# Altium schematic symbol library altera-cyclone-II.SCHLIB: 24 symbols (part 1 of 3)
Pins are listed as number, name and electrical type; pins without a type are passive.

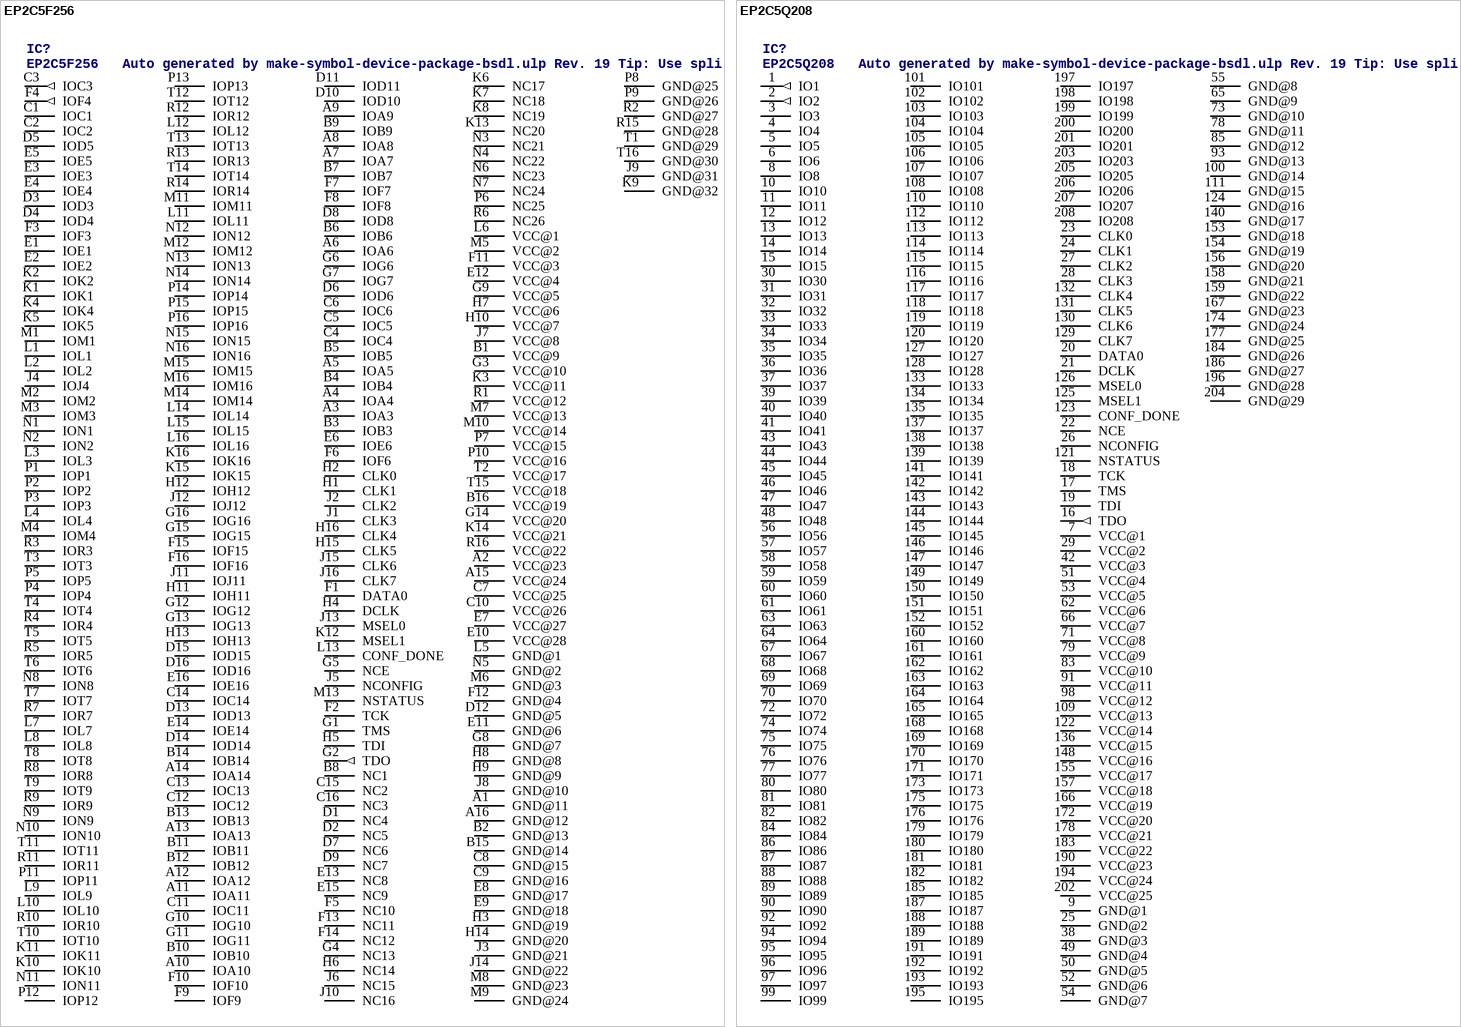
[diagram p0: symbols EP2C5F256 to EP2C5Q208]

## EP2C5F256
designator IC?, comment EP2C5F256   Auto generated by make-symbol-device-package-bsdl.ulp Rev. 19 Tip: Use split-device-symbol.ulp to generate a Device with multiple small symbols! Read HELP.   Source: EP2C5F256.BSD
MPN: EP2C5F256C8N; OC_FARNELL: 1635082; OC_NEWARK: 51R0566
footprint FBGA256
pins: A1 GND@11 (power), A2 VCC@23 (power), A3 IOA3, A4 IOA4, A5 IOA5, A6 IOA6, A7 IOA7, A8 IOA8, A9 IOA9, A10 IOA10, A11 IOA11, A12 IOA12, A13 IOA13, A14 IOA14, A15 VCC@24 (power), A16 GND@12 (power), B1 VCC@9 (power), B2 GND@13 (power), B3 IOB3, B4 IOB4, B5 IOB5, B6 IOB6, B7 IOB7, B8 NC1, B9 IOB9, B10 IOB10, B11 IOB11, B12 IOB12, B13 IOB13, B14 IOB14, B15 GND@14 (power), B16 VCC@19 (power), C1 IOC1, C2 IOC2, C3 IOC3 (out), C4 IOC4, C5 IOC5, C6 IOC6, C7 VCC@25 (power), C8 GND@15 (power), C9 GND@16 (power), C10 VCC@26 (power), C11 IOC11, C12 IOC12, C13 IOC13, C14 IOC14, C15 NC2, C16 NC3, D1 NC4, D2 NC5, D3 IOD3, D4 IOD4, D5 IOD5, D6 IOD6, D7 NC6, D8 IOD8, D9 NC7, D10 IOD10, D11 IOD11, D12 GND@5 (power), D13 IOD13, D14 IOD14, D15 IOD15, D16 IOD16, E1 IOE1, E2 IOE2, E3 IOE3, E4 IOE4, E5 IOE5, E6 IOE6, E7 VCC@27 (power), E8 GND@17 (power), E9 GND@18 (power), E10 VCC@28 (power), E11 GND@6 (power), E12 VCC@4 (power), E13 NC8, E14 IOE14, E15 NC9, E16 IOE16, F1 DATA0, F2 TCK, F3 IOF3, F4 IOF4 (out), F5 NC10, F6 IOF6, F7 IOF7, F8 IOF8, F9 IOF9, F10 IOF10, F11 VCC@3 (power), F12 GND@4 (power), F13 NC11, F14 NC12, F15 IOF15, F16 IOF16, G1 TMS, G2 TDO (out), G3 VCC@10 (power), G4 NC13, G5 NCE, G6 IOG6, G7 IOG7, G8 GND@7 (power), G9 VCC@5 (power), G10 IOG10, G11 IOG11, G12 IOG12, G13 IOG13, G14 VCC@20 (power), G15 IOG15, G16 IOG16, H1 CLK1, H2 CLK0, H3 GND@19 (power), H4 DCLK, H5 TDI, H6 NC14, H7 VCC@6 (power), H8 GND@8 (power), H9 GND@9 (power), H10 VCC@7 (power), H11 IOH11, H12 IOH12, H13 IOH13, H14 GND@20 (power), H15 CLK5, H16 CLK4, J1 CLK3, J2 CLK2, J3 GND@21 (power), J4 IOJ4, J5 NCONFIG, J6 NC15, J7 VCC@8 (power), J8 GND@10 (power), J9 GND@31 (power), J10 NC16, J11 IOJ11, J12 IOJ12, J13 MSEL0, J14 GND@22 (power), J15 CLK6, J16 CLK7, K1 IOK1, K2 IOK2, K3 VCC@11 (power), K4 IOK4, K5 IOK5, K6 NC17, K7 NC18, K8 NC19, K9 GND@32 (power), K10 IOK10, K11 IOK11, K12 MSEL1, K13 NC20, K14 VCC@21 (power), K15 IOK15, K16 IOK16, L1 IOL1, L2 IOL2, L3 IOL3, L4 IOL4, L5 GND@1 (power), L6 VCC@1 (power), L7 IOL7, L8 IOL8, L9 IOL9, L10 IOL10, L11 IOL11, L12 IOL12, L13 CONF_DONE, L14 IOL14, L15 IOL15, L16 IOL16, M1 IOM1, M2 IOM2, M3 IOM3, M4 IOM4, M5 VCC@2 (power), M6 GND@3 (power), M7 VCC@13 (power), M8 GND@23 (power), M9 GND@24 (power), M10 VCC@14 (power), M11 IOM11, M12 IOM12, M13 NSTATUS, M14 IOM14, M15 IOM15, M16 IOM16, N1 ION1, N2 ION2, N3 NC21, N4 NC22, N5 GND@2 (power), N6 NC23, N7 NC24, N8 ION8, N9 ION9, N10 ION10, N11 ION11, N12 ION12, N13 ION13, N14 ION14, N15 ION15, N16 ION16, P1 IOP1, P2 IOP2, P3 IOP3, P4 IOP4, P5 IOP5, P6 NC25, P7 VCC@15 (power), P8 GND@25 (power), P9 GND@26 (power), P10 VCC@16 (power), P11 IOP11, P12 IOP12, P13 IOP13, P14 IOP14, P15 IOP15, P16 IOP16, R1 VCC@12 (power), R2 GND@27 (power), R3 IOR3, R4 IOR4, R5 IOR5, R6 NC26, R7 IOR7, R8 IOR8, R9 IOR9, R10 IOR10, R11 IOR11, R12 IOR12, R13 IOR13, R14 IOR14, R15 GND@28 (power), R16 VCC@22 (power), T1 GND@29 (power), T2 VCC@17 (power), T3 IOT3, T4 IOT4, T5 IOT5, T6 IOT6, T7 IOT7, T8 IOT8, T9 IOT9, T10 IOT10, T11 IOT11, T12 IOT12, T13 IOT13, T14 IOT14, T15 VCC@18 (power), T16 GND@30 (power)

## EP2C5Q208
designator IC?, comment EP2C5Q208   Auto generated by make-symbol-device-package-bsdl.ulp Rev. 19 Tip: Use split-device-symbol.ulp to generate a Device with multiple small symbols! Read HELP.   Source: EP2C5Q208.BSD
MPN: EP2C5Q208C8N; OC_FARNELL: 1663193; OC_NEWARK: 51R0567
footprint PQFP208
pins: 1 IO1 (out), 2 IO2 (out), 3 IO3, 4 IO4, 5 IO5, 6 IO6, 7 VCC@1 (power), 8 IO8, 9 GND@1 (power), 10 IO10, 11 IO11, 12 IO12, 13 IO13, 14 IO14, 15 IO15, 16 TDO (out), 17 TMS, 18 TCK, 19 TDI, 20 DATA0, 21 DCLK, 22 NCE, 23 CLK0, 24 CLK1, 25 GND@2 (power), 26 NCONFIG, 27 CLK2, 28 CLK3, 29 VCC@2 (power), 30 IO30, 31 IO31, 32 IO32, 33 IO33, 34 IO34, 35 IO35, 36 IO36, 37 IO37, 38 GND@3 (power), 39 IO39, 40 IO40, 41 IO41, 42 VCC@3 (power), 43 IO43, 44 IO44, 45 IO45, 46 IO46, 47 IO47, 48 IO48, 49 GND@4 (power), 50 GND@5 (power), 51 VCC@4 (power), 52 GND@6 (power), 53 VCC@5 (power), 54 GND@7 (power), 55 GND@8 (power), 56 IO56, 57 IO57, 58 IO58, 59 IO59, 60 IO60, 61 IO61, 62 VCC@6 (power), 63 IO63, 64 IO64, 65 GND@9 (power), 66 VCC@7 (power), 67 IO67, 68 IO68, 69 IO69, 70 IO70, 71 VCC@8 (power), 72 IO72, 73 GND@10 (power), 74 IO74, 75 IO75, 76 IO76, 77 IO77, 78 GND@11 (power), 79 VCC@9 (power), 80 IO80, 81 IO81, 82 IO82, 83 VCC@10 (power), 84 IO84, 85 GND@12 (power), 86 IO86, 87 IO87, 88 IO88, 89 IO89, 90 IO90, 91 VCC@11 (power), 92 IO92, 93 GND@13 (power), 94 IO94, 95 IO95, 96 IO96, 97 IO97, 98 VCC@12 (power), 99 IO99, 100 GND@14 (power), 101 IO101, 102 IO102, 103 IO103, 104 IO104, 105 IO105, 106 IO106, 107 IO107, 108 IO108, 109 VCC@13 (power), 110 IO110, 111 GND@15 (power), 112 IO112, 113 IO113, 114 IO114, 115 IO115, 116 IO116, 117 IO117, 118 IO118, 119 IO119, 120 IO120, 121 NSTATUS, 122 VCC@14 (power), 123 CONF_DONE, 124 GND@16 (power), 125 MSEL1, 126 MSEL0, 127 IO127, 128 IO128, 129 CLK7, 130 CLK6, 131 CLK5, 132 CLK4, 133 IO133, 134 IO134, 135 IO135, 136 VCC@15 (power), 137 IO137, 138 IO138, 139 IO139, 140 GND@17 (power), 141 IO141, 142 IO142, 143 IO143, 144 IO144, 145 IO145, 146 IO146, 147 IO147, 148 VCC@16 (power), 149 IO149, 150 IO150, 151 IO151, 152 IO152, 153 GND@18 (power), 154 GND@19 (power), 155 VCC@17 (power), 156 GND@20 (power), 157 VCC@18 (power), 158 GND@21 (power), 159 GND@22 (power), 160 IO160, 161 IO161, 162 IO162, 163 IO163, 164 IO164, 165 IO165, 166 VCC@19 (power), 167 GND@23 (power), 168 IO168, 169 IO169, 170 IO170, 171 IO171, 172 VCC@20 (power), 173 IO173, 174 GND@24 (power), 175 IO175, 176 IO176, 177 GND@25 (power), 178 VCC@21 (power), 179 IO179, 180 IO180, 181 IO181, 182 IO182, 183 VCC@22 (power), 184 GND@26 (power), 185 IO185, 186 GND@27 (power), 187 IO187, 188 IO188, 189 IO189, 190 VCC@23 (power), 191 IO191, 192 IO192, 193 IO193, 194 VCC@24 (power), 195 IO195, 196 GND@28 (power), 197 IO197, 198 IO198, 199 IO199, 200 IO200, 201 IO201, 202 VCC@25 (power), 203 IO203, 204 GND@29 (power), 205 IO205, 206 IO206, 207 IO207, 208 IO208

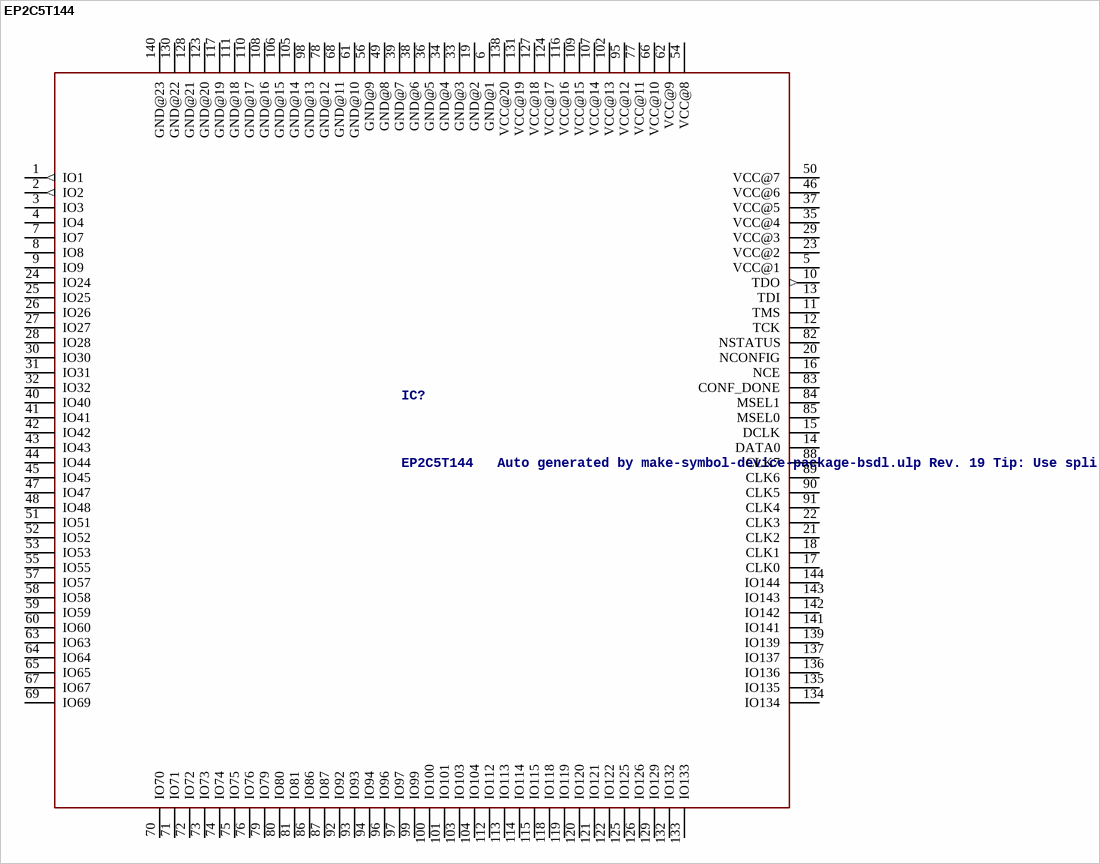
[diagram p1: symbol EP2C5T144]

## EP2C5T144
designator IC?, comment EP2C5T144   Auto generated by make-symbol-device-package-bsdl.ulp Rev. 19 Tip: Use split-device-symbol.ulp to generate a Device with multiple small symbols! Read HELP.   Source: EP2C5T144.BSD
MPN: EP2C5T144C8N; OC_FARNELL: 1453495; OC_NEWARK: 51R0568
footprint TQFP144
pins: 1 IO1 (out), 2 IO2 (out), 3 IO3, 4 IO4, 5 VCC@1 (power), 6 GND@1 (power), 7 IO7, 8 IO8, 9 IO9, 10 TDO (out), 11 TMS, 12 TCK, 13 TDI, 14 DATA0, 15 DCLK, 16 NCE, 17 CLK0, 18 CLK1, 19 GND@2 (power), 20 NCONFIG, 21 CLK2, 22 CLK3, 23 VCC@2 (power), 24 IO24, 25 IO25, 26 IO26, 27 IO27, 28 IO28, 29 VCC@3 (power), 30 IO30, 31 IO31, 32 IO32, 33 GND@3 (power), 34 GND@4 (power), 35 VCC@4 (power), 36 GND@5 (power), 37 VCC@5 (power), 38 GND@6 (power), 39 GND@7 (power), 40 IO40, 41 IO41, 42 IO42, 43 IO43, 44 IO44, 45 IO45, 46 VCC@6 (power), 47 IO47, 48 IO48, 49 GND@8 (power), 50 VCC@7 (power), 51 IO51, 52 IO52, 53 IO53, 54 VCC@8 (power), 55 IO55, 56 GND@9 (power), 57 IO57, 58 IO58, 59 IO59, 60 IO60, 61 GND@10 (power), 62 VCC@9 (power), 63 IO63, 64 IO64, 65 IO65, 66 VCC@10 (power), 67 IO67, 68 GND@11 (power), 69 IO69, 70 IO70, 71 IO71, 72 IO72, 73 IO73, 74 IO74, 75 IO75, 76 IO76, 77 VCC@11 (power), 78 GND@12 (power), 79 IO79, 80 IO80, 81 IO81, 82 NSTATUS, 83 CONF_DONE, 84 MSEL1, 85 MSEL0, 86 IO86, 87 IO87, 88 CLK7, 89 CLK6, 90 CLK5, 91 CLK4, 92 IO92, 93 IO93, 94 IO94, 95 VCC@12 (power), 96 IO96, 97 IO97, 98 GND@13 (power), 99 IO99, 100 IO100, 101 IO101, 102 VCC@13 (power), 103 IO103, 104 IO104, 105 GND@14 (power), 106 GND@15 (power), 107 VCC@14 (power), 108 GND@16 (power), 109 VCC@15 (power), 110 GND@17 (power), 111 GND@18 (power), 112 IO112, 113 IO113, 114 IO114, 115 IO115, 116 VCC@16 (power), 117 GND@19 (power), 118 IO118, 119 IO119, 120 IO120, 121 IO121, 122 IO122, 123 GND@20 (power), 124 VCC@17 (power), 125 IO125, 126 IO126, 127 VCC@18 (power), 128 GND@21 (power), 129 IO129, 130 GND@22 (power), 131 VCC@19 (power), 132 IO132, 133 IO133, 134 IO134, 135 IO135, 136 IO136, 137 IO137, 138 VCC@20 (power), 139 IO139, 140 GND@23 (power), 141 IO141, 142 IO142, 143 IO143, 144 IO144

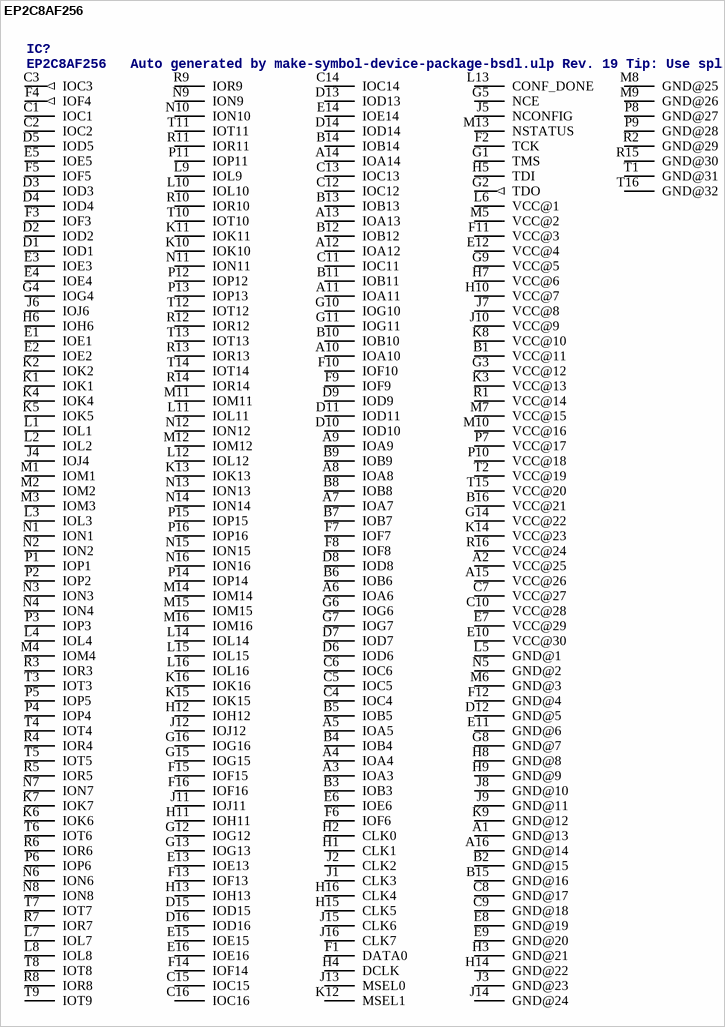
[diagram p2: symbol EP2C8AF256]

## EP2C8AF256
designator IC?, comment EP2C8AF256   Auto generated by make-symbol-device-package-bsdl.ulp Rev. 19 Tip: Use split-device-symbol.ulp to generate a Device with multiple small symbols! Read HELP.   Source: EP2C8AF256.BSD
MPN: EP2C8AF256I8NES; OC_FARNELL: unknown; OC_NEWARK: 52R0595
footprint FBGA256
pins: A1 GND@13 (power), A2 VCC@25 (power), A3 IOA3, A4 IOA4, A5 IOA5, A6 IOA6, A7 IOA7, A8 IOA8, A9 IOA9, A10 IOA10, A11 IOA11, A12 IOA12, A13 IOA13, A14 IOA14, A15 VCC@26 (power), A16 GND@14 (power), B1 VCC@11 (power), B2 GND@15 (power), B3 IOB3, B4 IOB4, B5 IOB5, B6 IOB6, B7 IOB7, B8 IOB8, B9 IOB9, B10 IOB10, B11 IOB11, B12 IOB12, B13 IOB13, B14 IOB14, B15 GND@16 (power), B16 VCC@21 (power), C1 IOC1, C2 IOC2, C3 IOC3 (out), C4 IOC4, C5 IOC5, C6 IOC6, C7 VCC@27 (power), C8 GND@17 (power), C9 GND@18 (power), C10 VCC@28 (power), C11 IOC11, C12 IOC12, C13 IOC13, C14 IOC14, C15 IOC15, C16 IOC16, D1 IOD1, D2 IOD2, D3 IOD3, D4 IOD4, D5 IOD5, D6 IOD6, D7 IOD7, D8 IOD8, D9 IOD9, D10 IOD10, D11 IOD11, D12 GND@5 (power), D13 IOD13, D14 IOD14, D15 IOD15, D16 IOD16, E1 IOE1, E2 IOE2, E3 IOE3, E4 IOE4, E5 IOE5, E6 IOE6, E7 VCC@29 (power), E8 GND@19 (power), E9 GND@20 (power), E10 VCC@30 (power), E11 GND@6 (power), E12 VCC@4 (power), E13 IOE13, E14 IOE14, E15 IOE15, E16 IOE16, F1 DATA0, F2 TCK, F3 IOF3, F4 IOF4 (out), F5 IOF5, F6 IOF6, F7 IOF7, F8 IOF8, F9 IOF9, F10 IOF10, F11 VCC@3 (power), F12 GND@4 (power), F13 IOF13, F14 IOF14, F15 IOF15, F16 IOF16, G1 TMS, G2 TDO (out), G3 VCC@12 (power), G4 IOG4, G5 NCE, G6 IOG6, G7 IOG7, G8 GND@7 (power), G9 VCC@5 (power), G10 IOG10, G11 IOG11, G12 IOG12, G13 IOG13, G14 VCC@22 (power), G15 IOG15, G16 IOG16, H1 CLK1, H2 CLK0, H3 GND@21 (power), H4 DCLK, H5 TDI, H6 IOH6, H7 VCC@6 (power), H8 GND@8 (power), H9 GND@9 (power), H10 VCC@7 (power), H11 IOH11, H12 IOH12, H13 IOH13, H14 GND@22 (power), H15 CLK5, H16 CLK4, J1 CLK3, J2 CLK2, J3 GND@23 (power), J4 IOJ4, J5 NCONFIG, J6 IOJ6, J7 VCC@8 (power), J8 GND@10 (power), J9 GND@11 (power), J10 VCC@9 (power), J11 IOJ11, J12 IOJ12, J13 MSEL0, J14 GND@24 (power), J15 CLK6, J16 CLK7, K1 IOK1, K2 IOK2, K3 VCC@13 (power), K4 IOK4, K5 IOK5, K6 IOK6, K7 IOK7, K8 VCC@10 (power), K9 GND@12 (power), K10 IOK10, K11 IOK11, K12 MSEL1, K13 IOK13, K14 VCC@23 (power), K15 IOK15, K16 IOK16, L1 IOL1, L2 IOL2, L3 IOL3, L4 IOL4, L5 GND@1 (power), L6 VCC@1 (power), L7 IOL7, L8 IOL8, L9 IOL9, L10 IOL10, L11 IOL11, L12 IOL12, L13 CONF_DONE, L14 IOL14, L15 IOL15, L16 IOL16, M1 IOM1, M2 IOM2, M3 IOM3, M4 IOM4, M5 VCC@2 (power), M6 GND@3 (power), M7 VCC@15 (power), M8 GND@25 (power), M9 GND@26 (power), M10 VCC@16 (power), M11 IOM11, M12 IOM12, M13 NSTATUS, M14 IOM14, M15 IOM15, M16 IOM16, N1 ION1, N2 ION2, N3 ION3, N4 ION4, N5 GND@2 (power), N6 ION6, N7 ION7, N8 ION8, N9 ION9, N10 ION10, N11 ION11, N12 ION12, N13 ION13, N14 ION14, N15 ION15, N16 ION16, P1 IOP1, P2 IOP2, P3 IOP3, P4 IOP4, P5 IOP5, P6 IOP6, P7 VCC@17 (power), P8 GND@27 (power), P9 GND@28 (power), P10 VCC@18 (power), P11 IOP11, P12 IOP12, P13 IOP13, P14 IOP14, P15 IOP15, P16 IOP16, R1 VCC@14 (power), R2 GND@29 (power), R3 IOR3, R4 IOR4, R5 IOR5, R6 IOR6, R7 IOR7, R8 IOR8, R9 IOR9, R10 IOR10, R11 IOR11, R12 IOR12, R13 IOR13, R14 IOR14, R15 GND@30 (power), R16 VCC@24 (power), T1 GND@31 (power), T2 VCC@19 (power), T3 IOT3, T4 IOT4, T5 IOT5, T6 IOT6, T7 IOT7, T8 IOT8, T9 IOT9, T10 IOT10, T11 IOT11, T12 IOT12, T13 IOT13, T14 IOT14, T15 VCC@20 (power), T16 GND@32 (power)

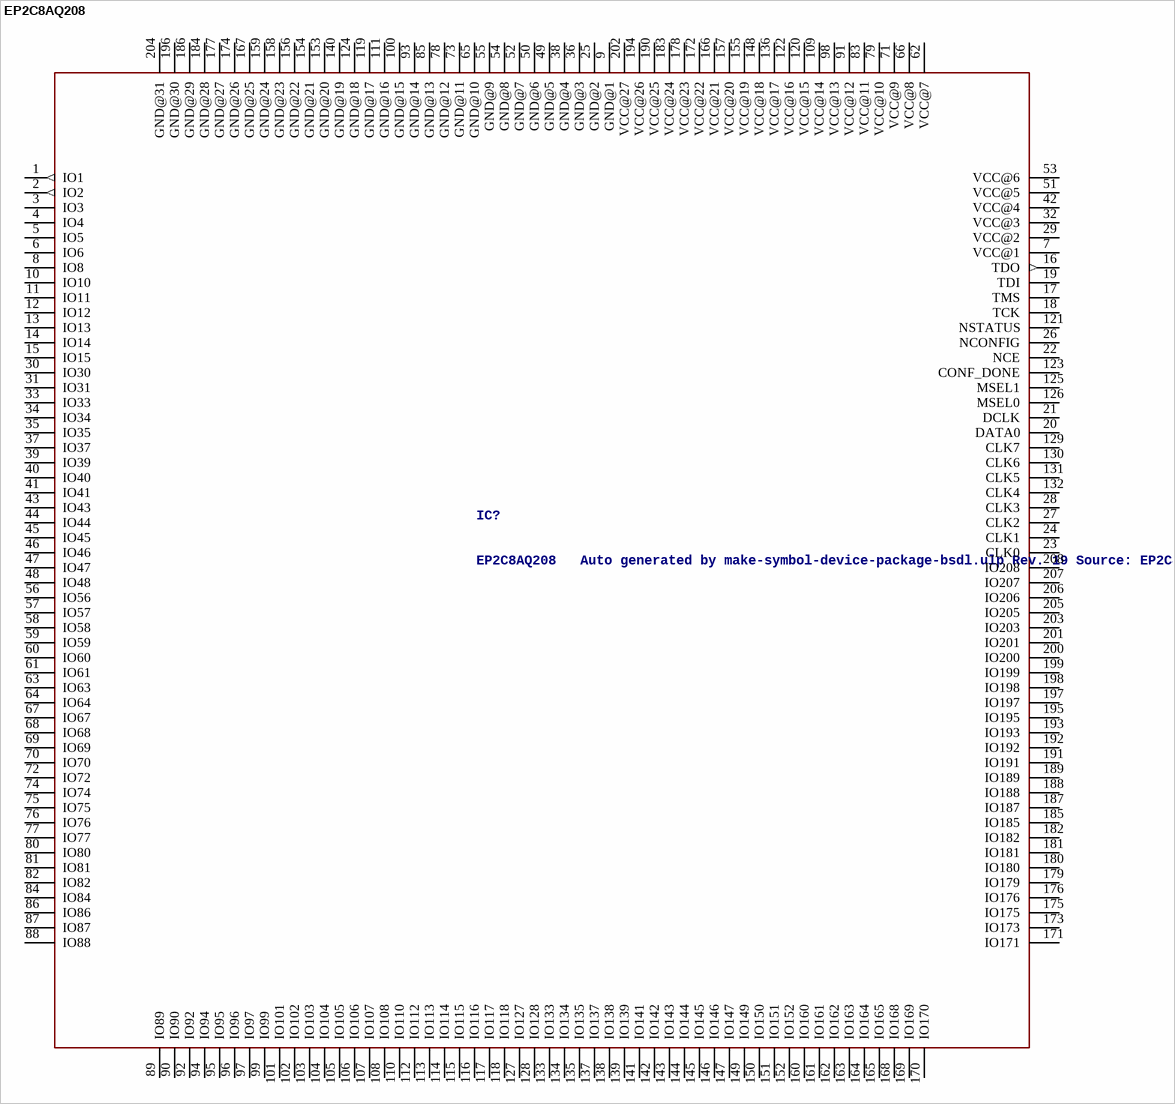
[diagram p3: symbol EP2C8AQ208]

## EP2C8AQ208
designator IC?, comment EP2C8AQ208   Auto generated by make-symbol-device-package-bsdl.ulp Rev. 19 Source: EP2C8AQ208.BSD
OC_FARNELL: unknown; OC_NEWARK: unknown
footprint PQFP208
pins: 1 IO1 (out), 2 IO2 (out), 3 IO3, 4 IO4, 5 IO5, 6 IO6, 7 VCC@1 (power), 8 IO8, 9 GND@1 (power), 10 IO10, 11 IO11, 12 IO12, 13 IO13, 14 IO14, 15 IO15, 16 TDO (out), 17 TMS, 18 TCK, 19 TDI, 20 DATA0, 21 DCLK, 22 NCE, 23 CLK0, 24 CLK1, 25 GND@2 (power), 26 NCONFIG, 27 CLK2, 28 CLK3, 29 VCC@2 (power), 30 IO30, 31 IO31, 32 VCC@3 (power), 33 IO33, 34 IO34, 35 IO35, 36 GND@3 (power), 37 IO37, 38 GND@4 (power), 39 IO39, 40 IO40, 41 IO41, 42 VCC@4 (power), 43 IO43, 44 IO44, 45 IO45, 46 IO46, 47 IO47, 48 IO48, 49 GND@5 (power), 50 GND@6 (power), 51 VCC@5 (power), 52 GND@7 (power), 53 VCC@6 (power), 54 GND@8 (power), 55 GND@9 (power), 56 IO56, 57 IO57, 58 IO58, 59 IO59, 60 IO60, 61 IO61, 62 VCC@7 (power), 63 IO63, 64 IO64, 65 GND@10 (power), 66 VCC@8 (power), 67 IO67, 68 IO68, 69 IO69, 70 IO70, 71 VCC@9 (power), 72 IO72, 73 GND@11 (power), 74 IO74, 75 IO75, 76 IO76, 77 IO77, 78 GND@12 (power), 79 VCC@10 (power), 80 IO80, 81 IO81, 82 IO82, 83 VCC@11 (power), 84 IO84, 85 GND@13 (power), 86 IO86, 87 IO87, 88 IO88, 89 IO89, 90 IO90, 91 VCC@12 (power), 92 IO92, 93 GND@14 (power), 94 IO94, 95 IO95, 96 IO96, 97 IO97, 98 VCC@13 (power), 99 IO99, 100 GND@15 (power), 101 IO101, 102 IO102, 103 IO103, 104 IO104, 105 IO105, 106 IO106, 107 IO107, 108 IO108, 109 VCC@14 (power), 110 IO110, 111 GND@16 (power), 112 IO112, 113 IO113, 114 IO114, 115 IO115, 116 IO116, 117 IO117, 118 IO118, 119 GND@17 (power), 120 VCC@15 (power), 121 NSTATUS, 122 VCC@16 (power), 123 CONF_DONE, 124 GND@18 (power), 125 MSEL1, 126 MSEL0, 127 IO127, 128 IO128, 129 CLK7, 130 CLK6, 131 CLK5, 132 CLK4, 133 IO133, 134 IO134, 135 IO135, 136 VCC@17 (power), 137 IO137, 138 IO138, 139 IO139, 140 GND@19 (power), 141 IO141, 142 IO142, 143 IO143, 144 IO144, 145 IO145, 146 IO146, 147 IO147, 148 VCC@18 (power), 149 IO149, 150 IO150, 151 IO151, 152 IO152, 153 GND@20 (power), 154 GND@21 (power), 155 VCC@19 (power), 156 GND@22 (power), 157 VCC@20 (power), 158 GND@23 (power), 159 GND@24 (power), 160 IO160, 161 IO161, 162 IO162, 163 IO163, 164 IO164, 165 IO165, 166 VCC@21 (power), 167 GND@25 (power), 168 IO168, 169 IO169, 170 IO170, 171 IO171, 172 VCC@22 (power), 173 IO173, 174 GND@26 (power), 175 IO175, 176 IO176, 177 GND@27 (power), 178 VCC@23 (power), 179 IO179, 180 IO180, 181 IO181, 182 IO182, 183 VCC@24 (power), 184 GND@28 (power), 185 IO185, 186 GND@29 (power), 187 IO187, 188 IO188, 189 IO189, 190 VCC@25 (power), 191 IO191, 192 IO192, 193 IO193, 194 VCC@26 (power), 195 IO195, 196 GND@30 (power), 197 IO197, 198 IO198, 199 IO199, 200 IO200, 201 IO201, 202 VCC@27 (power), 203 IO203, 204 GND@31 (power), 205 IO205, 206 IO206, 207 IO207, 208 IO208

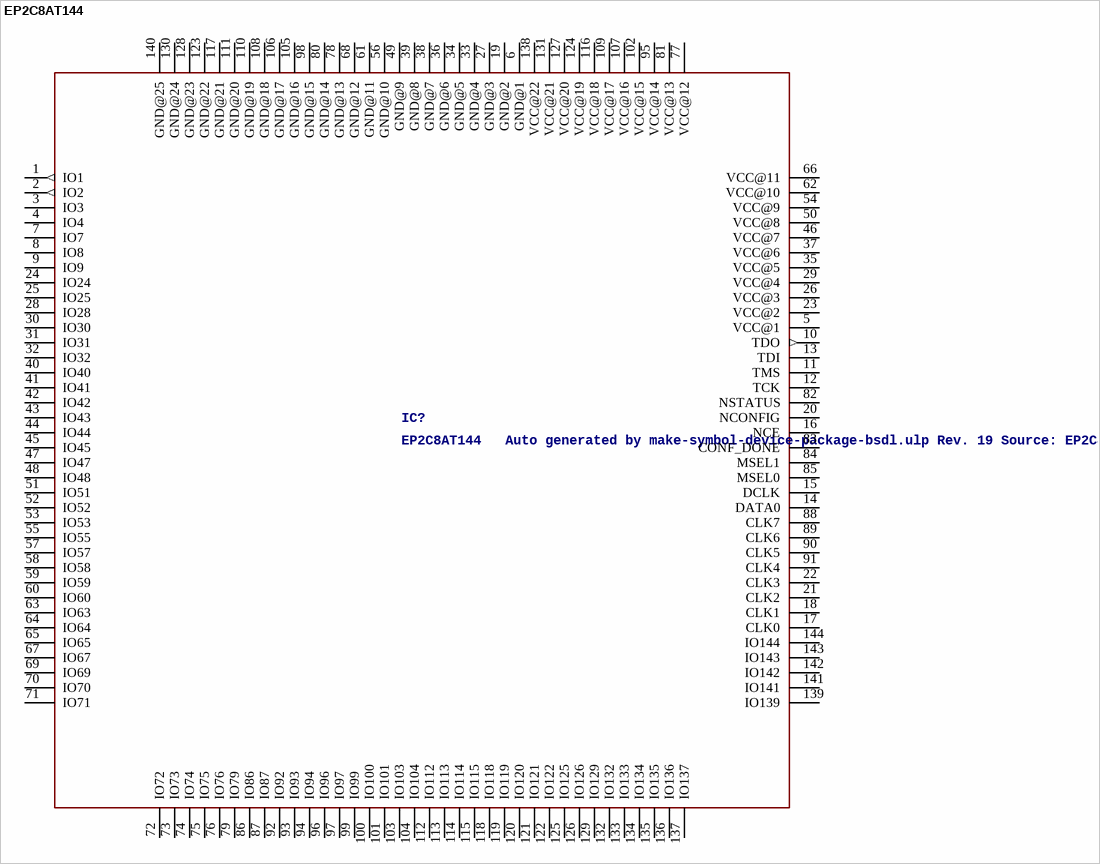
[diagram p4: symbol EP2C8AT144]

## EP2C8AT144
designator IC?, comment EP2C8AT144   Auto generated by make-symbol-device-package-bsdl.ulp Rev. 19 Source: EP2C8AT144.BSD
OC_FARNELL: unknown; OC_NEWARK: unknown
footprint TQFP144
pins: 1 IO1 (out), 2 IO2 (out), 3 IO3, 4 IO4, 5 VCC@1 (power), 6 GND@1 (power), 7 IO7, 8 IO8, 9 IO9, 10 TDO (out), 11 TMS, 12 TCK, 13 TDI, 14 DATA0, 15 DCLK, 16 NCE, 17 CLK0, 18 CLK1, 19 GND@2 (power), 20 NCONFIG, 21 CLK2, 22 CLK3, 23 VCC@2 (power), 24 IO24, 25 IO25, 26 VCC@3 (power), 27 GND@3 (power), 28 IO28, 29 VCC@4 (power), 30 IO30, 31 IO31, 32 IO32, 33 GND@4 (power), 34 GND@5 (power), 35 VCC@5 (power), 36 GND@6 (power), 37 VCC@6 (power), 38 GND@7 (power), 39 GND@8 (power), 40 IO40, 41 IO41, 42 IO42, 43 IO43, 44 IO44, 45 IO45, 46 VCC@7 (power), 47 IO47, 48 IO48, 49 GND@9 (power), 50 VCC@8 (power), 51 IO51, 52 IO52, 53 IO53, 54 VCC@9 (power), 55 IO55, 56 GND@10 (power), 57 IO57, 58 IO58, 59 IO59, 60 IO60, 61 GND@11 (power), 62 VCC@10 (power), 63 IO63, 64 IO64, 65 IO65, 66 VCC@11 (power), 67 IO67, 68 GND@12 (power), 69 IO69, 70 IO70, 71 IO71, 72 IO72, 73 IO73, 74 IO74, 75 IO75, 76 IO76, 77 VCC@12 (power), 78 GND@13 (power), 79 IO79, 80 GND@14 (power), 81 VCC@13 (power), 82 NSTATUS, 83 CONF_DONE, 84 MSEL1, 85 MSEL0, 86 IO86, 87 IO87, 88 CLK7, 89 CLK6, 90 CLK5, 91 CLK4, 92 IO92, 93 IO93, 94 IO94, 95 VCC@14 (power), 96 IO96, 97 IO97, 98 GND@15 (power), 99 IO99, 100 IO100, 101 IO101, 102 VCC@15 (power), 103 IO103, 104 IO104, 105 GND@16 (power), 106 GND@17 (power), 107 VCC@16 (power), 108 GND@18 (power), 109 VCC@17 (power), 110 GND@19 (power), 111 GND@20 (power), 112 IO112, 113 IO113, 114 IO114, 115 IO115, 116 VCC@18 (power), 117 GND@21 (power), 118 IO118, 119 IO119, 120 IO120, 121 IO121, 122 IO122, 123 GND@22 (power), 124 VCC@19 (power), 125 IO125, 126 IO126, 127 VCC@20 (power), 128 GND@23 (power), 129 IO129, 130 GND@24 (power), 131 VCC@21 (power), 132 IO132, 133 IO133, 134 IO134, 135 IO135, 136 IO136, 137 IO137, 138 VCC@22 (power), 139 IO139, 140 GND@25 (power), 141 IO141, 142 IO142, 143 IO143, 144 IO144

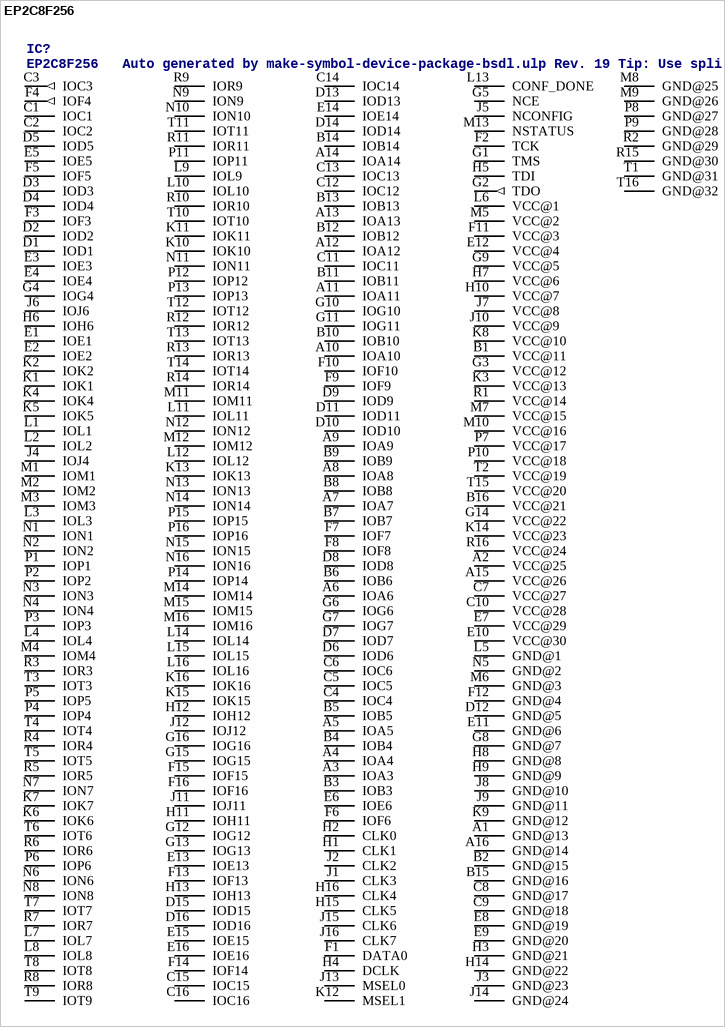
[diagram p5: symbol EP2C8F256]

## EP2C8F256
designator IC?, comment EP2C8F256   Auto generated by make-symbol-device-package-bsdl.ulp Rev. 19 Tip: Use split-device-symbol.ulp to generate a Device with multiple small symbols! Read HELP.   Source: EP2C8F256.BSD
MPN: EP2C8F256I8N; OC_FARNELL: 1453480; OC_NEWARK: 52R0602
footprint FBGA256
pins: A1 GND@13 (power), A2 VCC@25 (power), A3 IOA3, A4 IOA4, A5 IOA5, A6 IOA6, A7 IOA7, A8 IOA8, A9 IOA9, A10 IOA10, A11 IOA11, A12 IOA12, A13 IOA13, A14 IOA14, A15 VCC@26 (power), A16 GND@14 (power), B1 VCC@11 (power), B2 GND@15 (power), B3 IOB3, B4 IOB4, B5 IOB5, B6 IOB6, B7 IOB7, B8 IOB8, B9 IOB9, B10 IOB10, B11 IOB11, B12 IOB12, B13 IOB13, B14 IOB14, B15 GND@16 (power), B16 VCC@21 (power), C1 IOC1, C2 IOC2, C3 IOC3 (out), C4 IOC4, C5 IOC5, C6 IOC6, C7 VCC@27 (power), C8 GND@17 (power), C9 GND@18 (power), C10 VCC@28 (power), C11 IOC11, C12 IOC12, C13 IOC13, C14 IOC14, C15 IOC15, C16 IOC16, D1 IOD1, D2 IOD2, D3 IOD3, D4 IOD4, D5 IOD5, D6 IOD6, D7 IOD7, D8 IOD8, D9 IOD9, D10 IOD10, D11 IOD11, D12 GND@5 (power), D13 IOD13, D14 IOD14, D15 IOD15, D16 IOD16, E1 IOE1, E2 IOE2, E3 IOE3, E4 IOE4, E5 IOE5, E6 IOE6, E7 VCC@29 (power), E8 GND@19 (power), E9 GND@20 (power), E10 VCC@30 (power), E11 GND@6 (power), E12 VCC@4 (power), E13 IOE13, E14 IOE14, E15 IOE15, E16 IOE16, F1 DATA0, F2 TCK, F3 IOF3, F4 IOF4 (out), F5 IOF5, F6 IOF6, F7 IOF7, F8 IOF8, F9 IOF9, F10 IOF10, F11 VCC@3 (power), F12 GND@4 (power), F13 IOF13, F14 IOF14, F15 IOF15, F16 IOF16, G1 TMS, G2 TDO (out), G3 VCC@12 (power), G4 IOG4, G5 NCE, G6 IOG6, G7 IOG7, G8 GND@7 (power), G9 VCC@5 (power), G10 IOG10, G11 IOG11, G12 IOG12, G13 IOG13, G14 VCC@22 (power), G15 IOG15, G16 IOG16, H1 CLK1, H2 CLK0, H3 GND@21 (power), H4 DCLK, H5 TDI, H6 IOH6, H7 VCC@6 (power), H8 GND@8 (power), H9 GND@9 (power), H10 VCC@7 (power), H11 IOH11, H12 IOH12, H13 IOH13, H14 GND@22 (power), H15 CLK5, H16 CLK4, J1 CLK3, J2 CLK2, J3 GND@23 (power), J4 IOJ4, J5 NCONFIG, J6 IOJ6, J7 VCC@8 (power), J8 GND@10 (power), J9 GND@11 (power), J10 VCC@9 (power), J11 IOJ11, J12 IOJ12, J13 MSEL0, J14 GND@24 (power), J15 CLK6, J16 CLK7, K1 IOK1, K2 IOK2, K3 VCC@13 (power), K4 IOK4, K5 IOK5, K6 IOK6, K7 IOK7, K8 VCC@10 (power), K9 GND@12 (power), K10 IOK10, K11 IOK11, K12 MSEL1, K13 IOK13, K14 VCC@23 (power), K15 IOK15, K16 IOK16, L1 IOL1, L2 IOL2, L3 IOL3, L4 IOL4, L5 GND@1 (power), L6 VCC@1 (power), L7 IOL7, L8 IOL8, L9 IOL9, L10 IOL10, L11 IOL11, L12 IOL12, L13 CONF_DONE, L14 IOL14, L15 IOL15, L16 IOL16, M1 IOM1, M2 IOM2, M3 IOM3, M4 IOM4, M5 VCC@2 (power), M6 GND@3 (power), M7 VCC@15 (power), M8 GND@25 (power), M9 GND@26 (power), M10 VCC@16 (power), M11 IOM11, M12 IOM12, M13 NSTATUS, M14 IOM14, M15 IOM15, M16 IOM16, N1 ION1, N2 ION2, N3 ION3, N4 ION4, N5 GND@2 (power), N6 ION6, N7 ION7, N8 ION8, N9 ION9, N10 ION10, N11 ION11, N12 ION12, N13 ION13, N14 ION14, N15 ION15, N16 ION16, P1 IOP1, P2 IOP2, P3 IOP3, P4 IOP4, P5 IOP5, P6 IOP6, P7 VCC@17 (power), P8 GND@27 (power), P9 GND@28 (power), P10 VCC@18 (power), P11 IOP11, P12 IOP12, P13 IOP13, P14 IOP14, P15 IOP15, P16 IOP16, R1 VCC@14 (power), R2 GND@29 (power), R3 IOR3, R4 IOR4, R5 IOR5, R6 IOR6, R7 IOR7, R8 IOR8, R9 IOR9, R10 IOR10, R11 IOR11, R12 IOR12, R13 IOR13, R14 IOR14, R15 GND@30 (power), R16 VCC@24 (power), T1 GND@31 (power), T2 VCC@19 (power), T3 IOT3, T4 IOT4, T5 IOT5, T6 IOT6, T7 IOT7, T8 IOT8, T9 IOT9, T10 IOT10, T11 IOT11, T12 IOT12, T13 IOT13, T14 IOT14, T15 VCC@20 (power), T16 GND@32 (power)

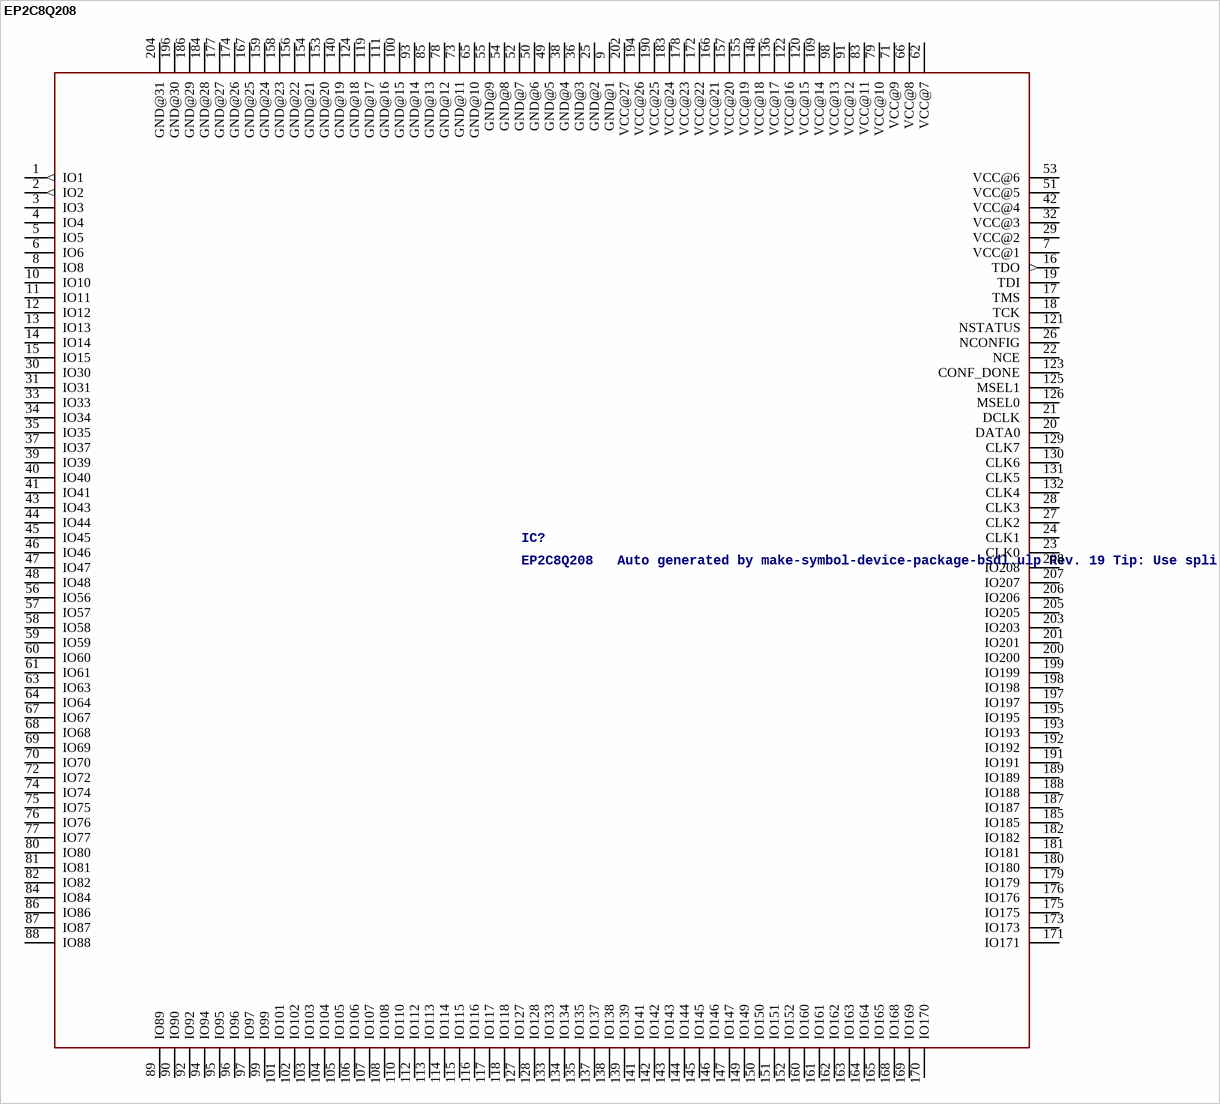
[diagram p6: symbol EP2C8Q208]

## EP2C8Q208
designator IC?, comment EP2C8Q208   Auto generated by make-symbol-device-package-bsdl.ulp Rev. 19 Tip: Use split-device-symbol.ulp to generate a Device with multiple small symbols! Read HELP.   Source: EP2C8Q208.BSD
MPN: EP2C8Q208C8N; OC_FARNELL: 1663194; OC_NEWARK: 51R0575
footprint PQFP208
pins: 1 IO1 (out), 2 IO2 (out), 3 IO3, 4 IO4, 5 IO5, 6 IO6, 7 VCC@1 (power), 8 IO8, 9 GND@1 (power), 10 IO10, 11 IO11, 12 IO12, 13 IO13, 14 IO14, 15 IO15, 16 TDO (out), 17 TMS, 18 TCK, 19 TDI, 20 DATA0, 21 DCLK, 22 NCE, 23 CLK0, 24 CLK1, 25 GND@2 (power), 26 NCONFIG, 27 CLK2, 28 CLK3, 29 VCC@2 (power), 30 IO30, 31 IO31, 32 VCC@3 (power), 33 IO33, 34 IO34, 35 IO35, 36 GND@3 (power), 37 IO37, 38 GND@4 (power), 39 IO39, 40 IO40, 41 IO41, 42 VCC@4 (power), 43 IO43, 44 IO44, 45 IO45, 46 IO46, 47 IO47, 48 IO48, 49 GND@5 (power), 50 GND@6 (power), 51 VCC@5 (power), 52 GND@7 (power), 53 VCC@6 (power), 54 GND@8 (power), 55 GND@9 (power), 56 IO56, 57 IO57, 58 IO58, 59 IO59, 60 IO60, 61 IO61, 62 VCC@7 (power), 63 IO63, 64 IO64, 65 GND@10 (power), 66 VCC@8 (power), 67 IO67, 68 IO68, 69 IO69, 70 IO70, 71 VCC@9 (power), 72 IO72, 73 GND@11 (power), 74 IO74, 75 IO75, 76 IO76, 77 IO77, 78 GND@12 (power), 79 VCC@10 (power), 80 IO80, 81 IO81, 82 IO82, 83 VCC@11 (power), 84 IO84, 85 GND@13 (power), 86 IO86, 87 IO87, 88 IO88, 89 IO89, 90 IO90, 91 VCC@12 (power), 92 IO92, 93 GND@14 (power), 94 IO94, 95 IO95, 96 IO96, 97 IO97, 98 VCC@13 (power), 99 IO99, 100 GND@15 (power), 101 IO101, 102 IO102, 103 IO103, 104 IO104, 105 IO105, 106 IO106, 107 IO107, 108 IO108, 109 VCC@14 (power), 110 IO110, 111 GND@16 (power), 112 IO112, 113 IO113, 114 IO114, 115 IO115, 116 IO116, 117 IO117, 118 IO118, 119 GND@17 (power), 120 VCC@15 (power), 121 NSTATUS, 122 VCC@16 (power), 123 CONF_DONE, 124 GND@18 (power), 125 MSEL1, 126 MSEL0, 127 IO127, 128 IO128, 129 CLK7, 130 CLK6, 131 CLK5, 132 CLK4, 133 IO133, 134 IO134, 135 IO135, 136 VCC@17 (power), 137 IO137, 138 IO138, 139 IO139, 140 GND@19 (power), 141 IO141, 142 IO142, 143 IO143, 144 IO144, 145 IO145, 146 IO146, 147 IO147, 148 VCC@18 (power), 149 IO149, 150 IO150, 151 IO151, 152 IO152, 153 GND@20 (power), 154 GND@21 (power), 155 VCC@19 (power), 156 GND@22 (power), 157 VCC@20 (power), 158 GND@23 (power), 159 GND@24 (power), 160 IO160, 161 IO161, 162 IO162, 163 IO163, 164 IO164, 165 IO165, 166 VCC@21 (power), 167 GND@25 (power), 168 IO168, 169 IO169, 170 IO170, 171 IO171, 172 VCC@22 (power), 173 IO173, 174 GND@26 (power), 175 IO175, 176 IO176, 177 GND@27 (power), 178 VCC@23 (power), 179 IO179, 180 IO180, 181 IO181, 182 IO182, 183 VCC@24 (power), 184 GND@28 (power), 185 IO185, 186 GND@29 (power), 187 IO187, 188 IO188, 189 IO189, 190 VCC@25 (power), 191 IO191, 192 IO192, 193 IO193, 194 VCC@26 (power), 195 IO195, 196 GND@30 (power), 197 IO197, 198 IO198, 199 IO199, 200 IO200, 201 IO201, 202 VCC@27 (power), 203 IO203, 204 GND@31 (power), 205 IO205, 206 IO206, 207 IO207, 208 IO208

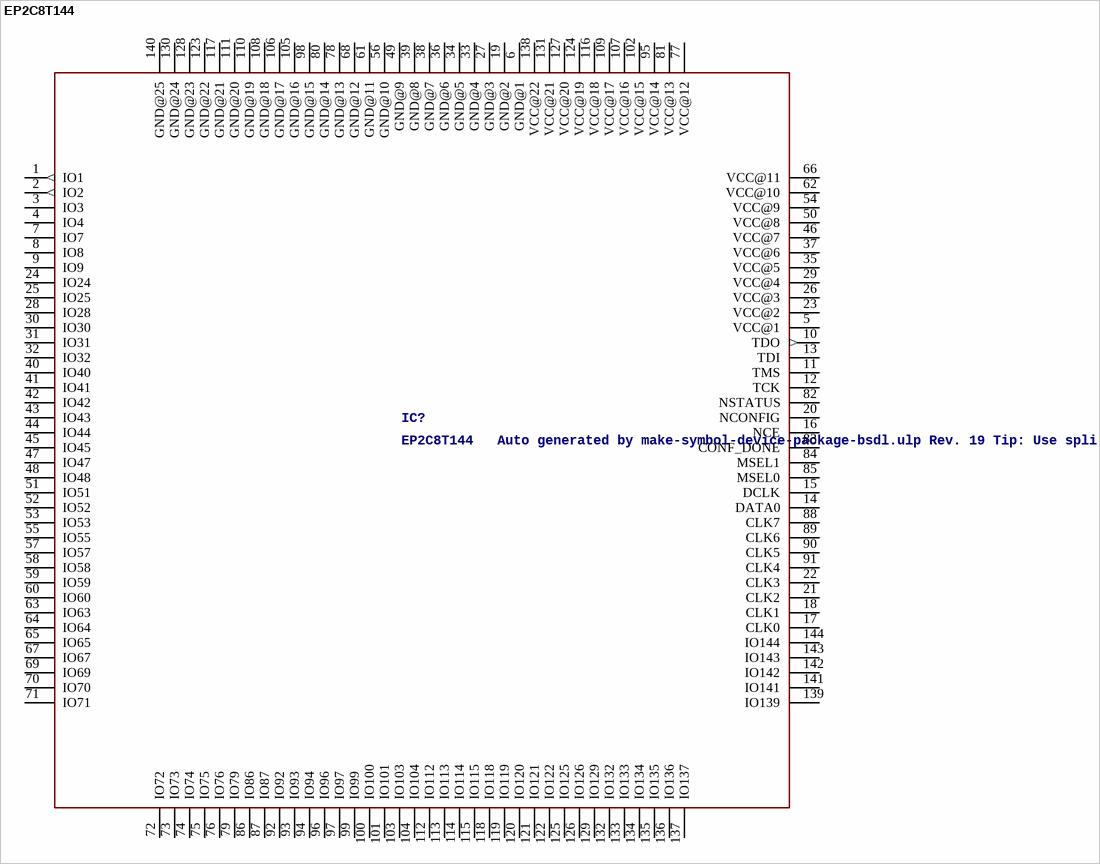
[diagram p7: symbol EP2C8T144]

## EP2C8T144
designator IC?, comment EP2C8T144   Auto generated by make-symbol-device-package-bsdl.ulp Rev. 19 Tip: Use split-device-symbol.ulp to generate a Device with multiple small symbols! Read HELP.   Source: EP2C8T144.BSD
MPN: EP2C8T144C8N; OC_FARNELL: 1663192; OC_NEWARK: 51R0576
footprint TQFP144
pins: 1 IO1 (out), 2 IO2 (out), 3 IO3, 4 IO4, 5 VCC@1 (power), 6 GND@1 (power), 7 IO7, 8 IO8, 9 IO9, 10 TDO (out), 11 TMS, 12 TCK, 13 TDI, 14 DATA0, 15 DCLK, 16 NCE, 17 CLK0, 18 CLK1, 19 GND@2 (power), 20 NCONFIG, 21 CLK2, 22 CLK3, 23 VCC@2 (power), 24 IO24, 25 IO25, 26 VCC@3 (power), 27 GND@3 (power), 28 IO28, 29 VCC@4 (power), 30 IO30, 31 IO31, 32 IO32, 33 GND@4 (power), 34 GND@5 (power), 35 VCC@5 (power), 36 GND@6 (power), 37 VCC@6 (power), 38 GND@7 (power), 39 GND@8 (power), 40 IO40, 41 IO41, 42 IO42, 43 IO43, 44 IO44, 45 IO45, 46 VCC@7 (power), 47 IO47, 48 IO48, 49 GND@9 (power), 50 VCC@8 (power), 51 IO51, 52 IO52, 53 IO53, 54 VCC@9 (power), 55 IO55, 56 GND@10 (power), 57 IO57, 58 IO58, 59 IO59, 60 IO60, 61 GND@11 (power), 62 VCC@10 (power), 63 IO63, 64 IO64, 65 IO65, 66 VCC@11 (power), 67 IO67, 68 GND@12 (power), 69 IO69, 70 IO70, 71 IO71, 72 IO72, 73 IO73, 74 IO74, 75 IO75, 76 IO76, 77 VCC@12 (power), 78 GND@13 (power), 79 IO79, 80 GND@14 (power), 81 VCC@13 (power), 82 NSTATUS, 83 CONF_DONE, 84 MSEL1, 85 MSEL0, 86 IO86, 87 IO87, 88 CLK7, 89 CLK6, 90 CLK5, 91 CLK4, 92 IO92, 93 IO93, 94 IO94, 95 VCC@14 (power), 96 IO96, 97 IO97, 98 GND@15 (power), 99 IO99, 100 IO100, 101 IO101, 102 VCC@15 (power), 103 IO103, 104 IO104, 105 GND@16 (power), 106 GND@17 (power), 107 VCC@16 (power), 108 GND@18 (power), 109 VCC@17 (power), 110 GND@19 (power), 111 GND@20 (power), 112 IO112, 113 IO113, 114 IO114, 115 IO115, 116 VCC@18 (power), 117 GND@21 (power), 118 IO118, 119 IO119, 120 IO120, 121 IO121, 122 IO122, 123 GND@22 (power), 124 VCC@19 (power), 125 IO125, 126 IO126, 127 VCC@20 (power), 128 GND@23 (power), 129 IO129, 130 GND@24 (power), 131 VCC@21 (power), 132 IO132, 133 IO133, 134 IO134, 135 IO135, 136 IO136, 137 IO137, 138 VCC@22 (power), 139 IO139, 140 GND@25 (power), 141 IO141, 142 IO142, 143 IO143, 144 IO144

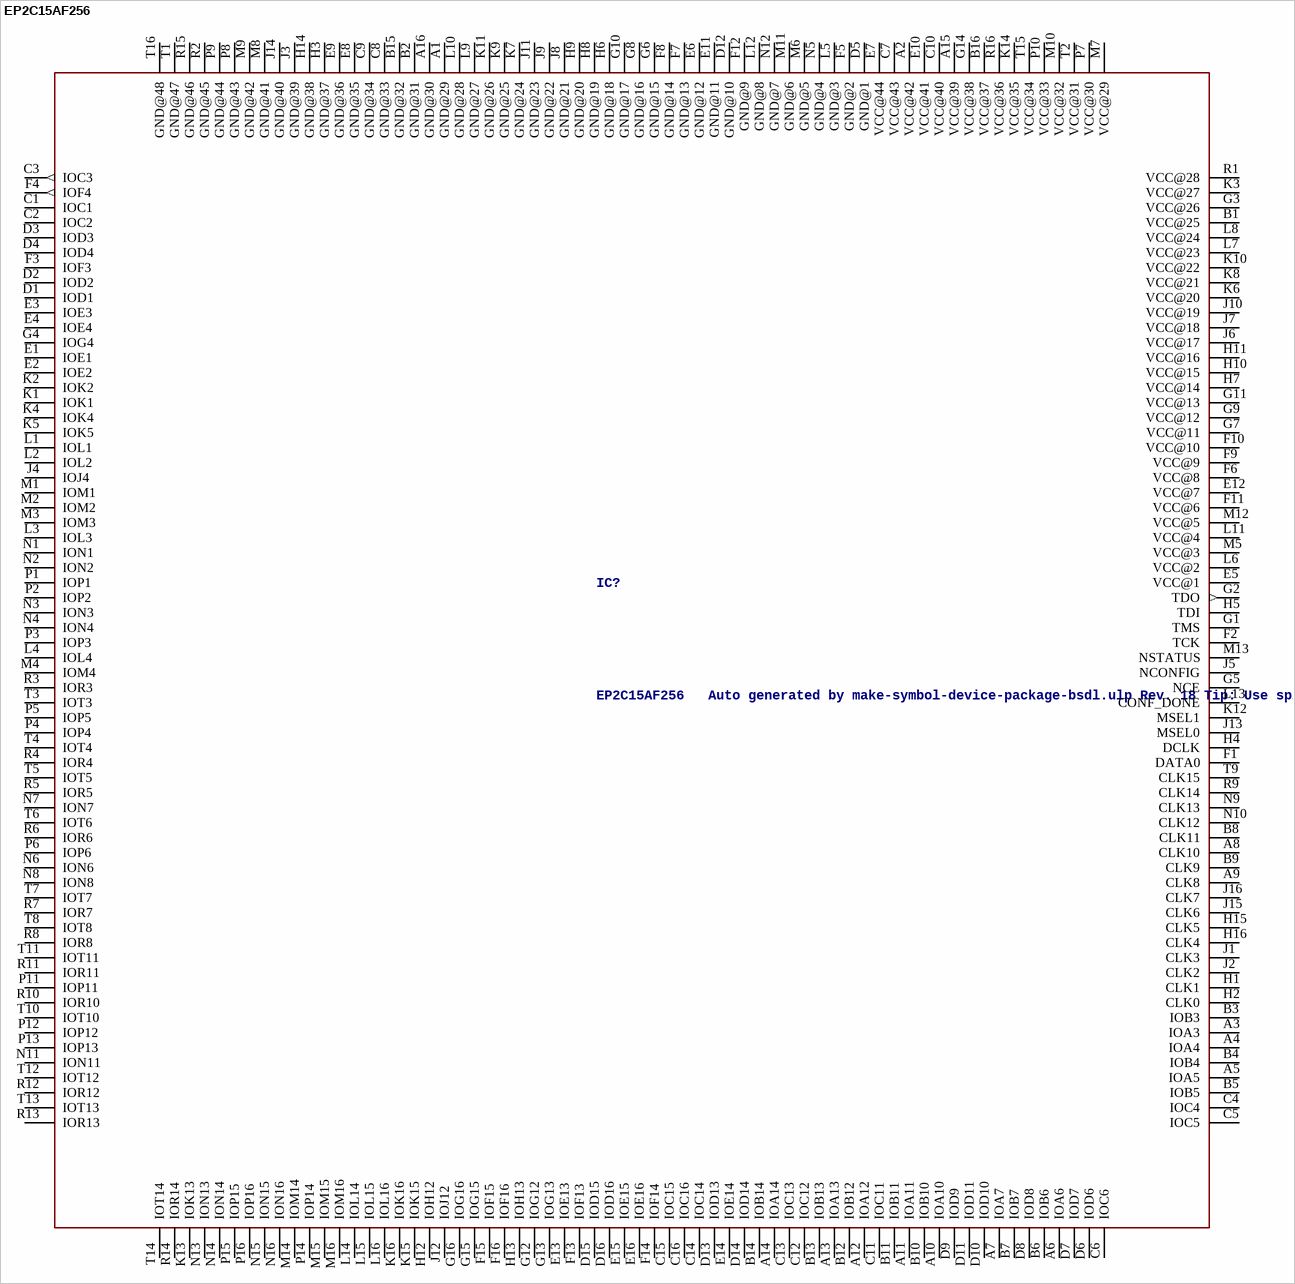
[diagram p8: symbol EP2C15AF256]

## EP2C15AF256
designator IC?, comment EP2C15AF256   Auto generated by make-symbol-device-package-bsdl.ulp Rev. 18 Tip: Use split-device-symbol.ulp to generate a Device with multiple small symbols! Read HELP.   Source: EP2C15AF256.BSD
MPN: EP2C15AF256C8N; OC_FARNELL: 1549347; OC_NEWARK: 52R0488
footprint FBGA256
pins: A1 GND@29 (power), A2 VCC@42 (power), A3 IOA3, A4 IOA4, A5 IOA5, A6 IOA6, A7 IOA7, A8 CLK10, A9 CLK8, A10 IOA10, A11 IOA11, A12 IOA12, A13 IOA13, A14 IOA14, A15 VCC@39 (power), A16 GND@30 (power), B1 VCC@25 (power), B2 GND@31 (power), B3 IOB3, B4 IOB4, B5 IOB5, B6 IOB6, B7 IOB7, B8 CLK11, B9 CLK9, B10 IOB10, B11 IOB11, B12 IOB12, B13 IOB13, B14 IOB14, B15 GND@32 (power), B16 VCC@37 (power), C1 IOC1, C2 IOC2, C3 IOC3 (out), C4 IOC4, C5 IOC5, C6 IOC6, C7 VCC@43 (power), C8 GND@33 (power), C9 GND@34 (power), C10 VCC@40 (power), C11 IOC11, C12 IOC12, C13 IOC13, C14 IOC14, C15 IOC15, C16 IOC16, D1 IOD1, D2 IOD2, D3 IOD3, D4 IOD4, D5 GND@1 (power), D6 IOD6, D7 IOD7, D8 IOD8, D9 IOD9, D10 IOD10, D11 IOD11, D12 GND@10 (power), D13 IOD13, D14 IOD14, D15 IOD15, D16 IOD16, E1 IOE1, E2 IOE2, E3 IOE3, E4 IOE4, E5 VCC@1 (power), E6 GND@12 (power), E7 VCC@44 (power), E8 GND@35 (power), E9 GND@36 (power), E10 VCC@41 (power), E11 GND@11 (power), E12 VCC@7 (power), E13 IOE13, E14 IOE14, E15 IOE15, E16 IOE16, F1 DATA0, F2 TCK, F3 IOF3, F4 IOF4 (out), F5 GND@2 (power), F6 VCC@8 (power), F7 GND@13 (power), F8 GND@14 (power), F9 VCC@9 (power), F10 VCC@10 (power), F11 VCC@6 (power), F12 GND@9 (power), F13 IOF13, F14 IOF14, F15 IOF15, F16 IOF16, G1 TMS, G2 TDO (out), G3 VCC@26 (power), G4 IOG4, G5 NCE, G6 GND@15 (power), G7 VCC@11 (power), G8 GND@16 (power), G9 VCC@12 (power), G10 GND@17 (power), G11 VCC@13 (power), G12 IOG12, G13 IOG13, G14 VCC@38 (power), G15 IOG15, G16 IOG16, H1 CLK1, H2 CLK0, H3 GND@37 (power), H4 DCLK, H5 TDI, H6 GND@18 (power), H7 VCC@14 (power), H8 GND@19 (power), H9 GND@20 (power), H10 VCC@15 (power), H11 VCC@16 (power), H12 IOH12, H13 IOH13, H14 GND@38 (power), H15 CLK5, H16 CLK4, J1 CLK3, J2 CLK2, J3 GND@39 (power), J4 IOJ4, J5 NCONFIG, J6 VCC@17 (power), J7 VCC@18 (power), J8 GND@21 (power), J9 GND@22 (power), J10 VCC@19 (power), J11 GND@23 (power), J12 IOJ12, J13 MSEL0, J14 GND@40 (power), J15 CLK6, J16 CLK7, K1 IOK1, K2 IOK2, K3 VCC@27 (power), K4 IOK4, K5 IOK5, K6 VCC@20 (power), K7 GND@24 (power), K8 VCC@21 (power), K9 GND@25 (power), K10 VCC@22 (power), K11 GND@26 (power), K12 MSEL1, K13 IOK13, K14 VCC@35 (power), K15 IOK15, K16 IOK16, L1 IOL1, L2 IOL2, L3 IOL3, L4 IOL4, L5 GND@3 (power), L6 VCC@2 (power), L7 VCC@23 (power), L8 VCC@24 (power), L9 GND@27 (power), L10 GND@28 (power), L11 VCC@4 (power), L12 GND@8 (power), L13 CONF_DONE, L14 IOL14, L15 IOL15, L16 IOL16, M1 IOM1, M2 IOM2, M3 IOM3, M4 IOM4, M5 VCC@3 (power), M6 GND@5 (power), M7 VCC@29 (power), M8 GND@41 (power), M9 GND@42 (power), M10 VCC@32 (power), M11 GND@6 (power), M12 VCC@5 (power), M13 NSTATUS, M14 IOM14, M15 IOM15, M16 IOM16, N1 ION1, N2 ION2, N3 ION3, N4 ION4, N5 GND@4 (power), N6 ION6, N7 ION7, N8 ION8, N9 CLK13, N10 CLK12, N11 ION11, N12 GND@7 (power), N13 ION13, N14 ION14, N15 ION15, N16 ION16, P1 IOP1, P2 IOP2, P3 IOP3, P4 IOP4, P5 IOP5, P6 IOP6, P7 VCC@30 (power), P8 GND@43 (power), P9 GND@44 (power), P10 VCC@33 (power), P11 IOP11, P12 IOP12, P13 IOP13, P14 IOP14, P15 IOP15, P16 IOP16, R1 VCC@28 (power), R2 GND@45 (power), R3 IOR3, R4 IOR4, R5 IOR5, R6 IOR6, R7 IOR7, R8 IOR8, R9 CLK14, R10 IOR10, R11 IOR11, R12 IOR12, R13 IOR13, R14 IOR14, R15 GND@46 (power), R16 VCC@36 (power), T1 GND@47 (power), T2 VCC@31 (power), T3 IOT3, T4 IOT4, T5 IOT5, T6 IOT6, T7 IOT7, T8 IOT8, T9 CLK15, T10 IOT10, T11 IOT11, T12 IOT12, T13 IOT13, T14 IOT14, T15 VCC@34 (power), T16 GND@48 (power)

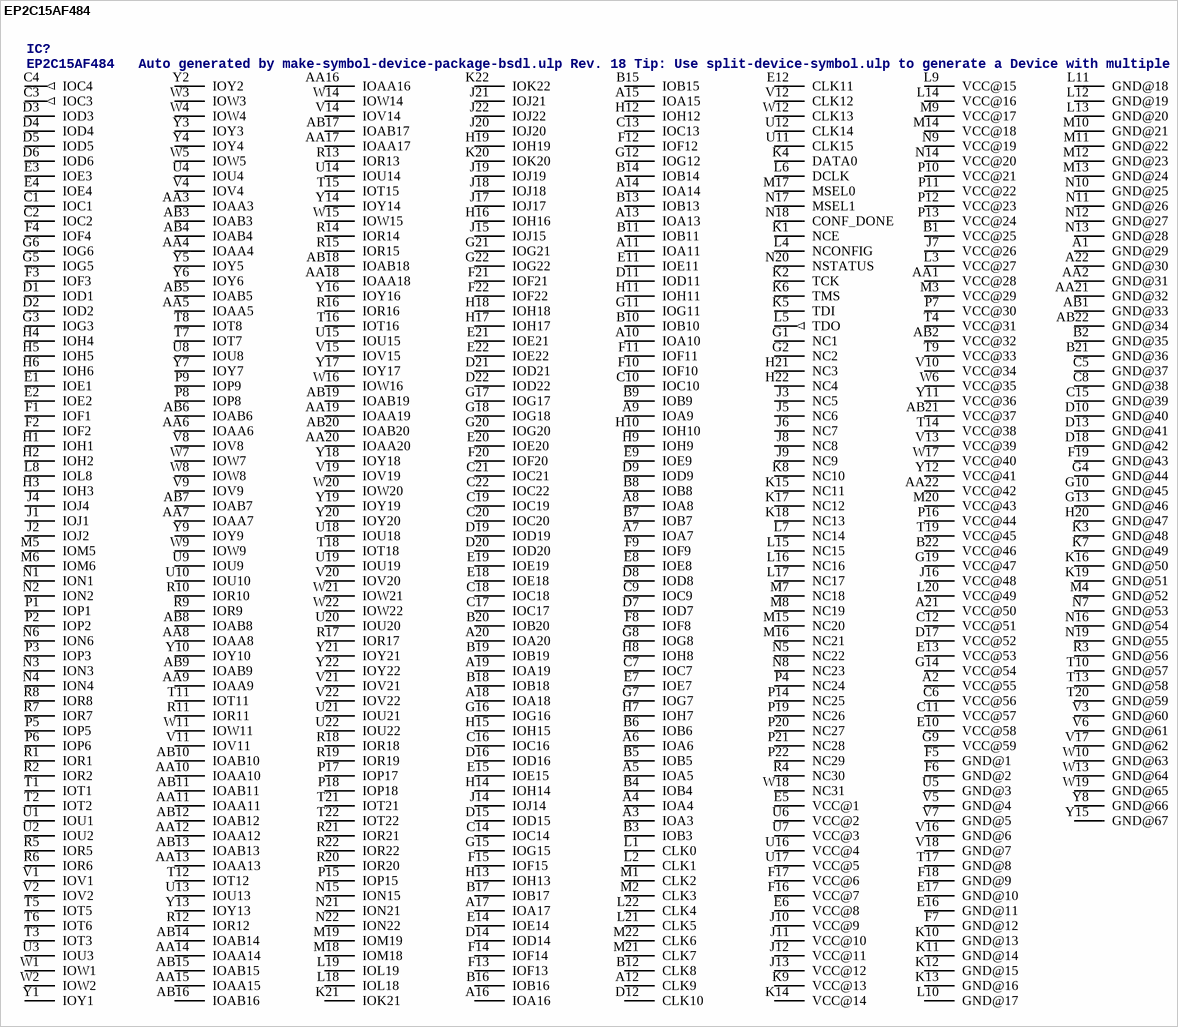
[diagram p9: symbol EP2C15AF484]

## EP2C15AF484
designator IC?, comment EP2C15AF484   Auto generated by make-symbol-device-package-bsdl.ulp Rev. 18 Tip: Use split-device-symbol.ulp to generate a Device with multiple small symbols! Read HELP.   Source: EP2C15AF484.BSD
MPN: EP2C15AF484C8N; OC_FARNELL: 1549353; OC_NEWARK: 52R0495
footprint FBGA484
pins: A1 GND@29 (power), A2 VCC@55 (power), A3 IOA3, A4 IOA4, A5 IOA5, A6 IOA6, A7 IOA7, A8 IOA8, A9 IOA9, A10 IOA10, A11 IOA11, A12 CLK9, A13 IOA13, A14 IOA14, A15 IOA15, A16 IOA16, A17 IOA17, A18 IOA18, A19 IOA19, A20 IOA20, A21 VCC@50 (power), A22 GND@30 (power), AA1 VCC@28 (power), AA2 GND@31 (power), AA3 IOAA3, AA4 IOAA4, AA5 IOAA5, AA6 IOAA6, AA7 IOAA7, AA8 IOAA8, AA9 IOAA9, AA10 IOAA10, AA11 IOAA11, AA12 IOAA12, AA13 IOAA13, AA14 IOAA14, AA15 IOAA15, AA16 IOAA16, AA17 IOAA17, AA18 IOAA18, AA19 IOAA19, AA20 IOAA20, AA21 GND@32 (power), AA22 VCC@42 (power), AB1 GND@33 (power), AB2 VCC@32 (power), AB3 IOAB3, AB4 IOAB4, AB5 IOAB5, AB6 IOAB6, AB7 IOAB7, AB8 IOAB8, AB9 IOAB9, AB10 IOAB10, AB11 IOAB11, AB12 IOAB12, AB13 IOAB13, AB14 IOAB14, AB15 IOAB15, AB16 IOAB16, AB17 IOAB17, AB18 IOAB18, AB19 IOAB19, AB20 IOAB20, AB21 VCC@37 (power), AB22 GND@34 (power), B1 VCC@25 (power), B2 GND@35 (power), B3 IOB3, B4 IOB4, B5 IOB5, B6 IOB6, B7 IOB7, B8 IOB8, B9 IOB9, B10 IOB10, B11 IOB11, B12 CLK8, B13 IOB13, B14 IOB14, B15 IOB15, B16 IOB16, B17 IOB17, B18 IOB18, B19 IOB19, B20 IOB20, B21 GND@36 (power), B22 VCC@46 (power), C1 IOC1, C2 IOC2, C3 IOC3 (out), C4 IOC4 (out), C5 GND@37 (power), C6 VCC@56 (power), C7 IOC7, C8 GND@38 (power), C9 IOC9, C10 IOC10, C11 VCC@57 (power), C12 VCC@51 (power), C13 IOC13, C14 IOC14, C15 GND@39 (power), C16 IOC16, C17 IOC17, C18 IOC18, C19 IOC19, C20 IOC20, C21 IOC21, C22 IOC22, D1 IOD1, D2 IOD2, D3 IOD3, D4 IOD4, D5 IOD5, D6 IOD6, D7 IOD7, D8 IOD8, D9 IOD9, D10 GND@40 (power), D11 IOD11, D12 CLK10, D13 GND@41 (power), D14 IOD14, D15 IOD15, D16 IOD16, D17 VCC@52 (power), D18 GND@42 (power), D19 IOD19, D20 IOD20, D21 IOD21, D22 IOD22, E1 IOE1, E2 IOE2, E3 IOE3, E4 IOE4, E5 VCC@1 (power), E6 VCC@8 (power), E7 IOE7, E8 IOE8, E9 IOE9, E10 VCC@58 (power), E11 IOE11, E12 CLK11, E13 VCC@53 (power), E14 IOE14, E15 IOE15, E16 GND@11 (power), E17 GND@10 (power), E18 IOE18, E19 IOE19, E20 IOE20, E21 IOE21, E22 IOE22, F1 IOF1, F2 IOF2, F3 IOF3, F4 IOF4, F5 GND@1 (power), F6 GND@2 (power), F7 GND@12 (power), F8 IOF8, F9 IOF9, F10 IOF10, F11 IOF11, F12 IOF12, F13 IOF13, F14 IOF14, F15 IOF15, F16 VCC@7 (power), F17 VCC@6 (power), F18 GND@9 (power), F19 GND@43 (power), F20 IOF20, F21 IOF21, F22 IOF22, G1 NC1, G2 NC2, G3 IOG3, G4 GND@44 (power), G5 IOG5, G6 IOG6, G7 IOG7, G8 IOG8, G9 VCC@59 (power), G10 GND@45 (power), G11 IOG11, G12 IOG12, G13 GND@46 (power), G14 VCC@54 (power), G15 IOG15, G16 IOG16, G17 IOG17, G18 IOG18, G19 VCC@47 (power), G20 IOG20, G21 IOG21, G22 IOG22, H1 IOH1, H2 IOH2, H3 IOH3, H4 IOH4, H5 IOH5, H6 IOH6, H7 IOH7, H8 IOH8, H9 IOH9, H10 IOH10, H11 IOH11, H12 IOH12, H13 IOH13, H14 IOH14, H15 IOH15, H16 IOH16, H17 IOH17, H18 IOH18, H19 IOH19, H20 GND@47 (power), H21 NC3, H22 NC4, J1 IOJ1, J2 IOJ2, J3 NC5, J4 IOJ4, J5 NC6, J6 NC7, J7 VCC@26 (power), J8 NC8, J9 NC9, J10 VCC@9 (power), J11 VCC@10 (power), J12 VCC@11 (power), J13 VCC@12 (power), J14 IOJ14, J15 IOJ15, J16 VCC@48 (power), J17 IOJ17, J18 IOJ18, J19 IOJ19, J20 IOJ20, J21 IOJ21, J22 IOJ22, K1 NCE, K2 TCK, K3 GND@48 (power), K4 DATA0, K5 TDI, K6 TMS, K7 GND@49 (power), K8 NC10, K9 VCC@13 (power), K10 GND@13 (power), K11 GND@14 (power), K12 GND@15 (power), K13 GND@16 (power), K14 VCC@14 (power), K15 NC11, K16 GND@50 (power), K17 NC12, K18 NC13, K19 GND@51 (power), K20 IOK20, K21 IOK21, K22 IOK22, L1 CLK0, L2 CLK1, L3 VCC@27 (power), L4 NCONFIG, L5 TDO (out), L6 DCLK, L7 NC14, L8 IOL8, L9 VCC@15 (power), L10 GND@17 (power), L11 GND@18 (power), L12 GND@19 (power), L13 GND@20 (power), L14 VCC@16 (power), L15 NC15, L16 NC16, L17 NC17, L18 IOL18, L19 IOL19, L20 VCC@49 (power), L21 CLK5, L22 CLK4, M1 CLK2, M2 CLK3, M3 VCC@29 (power), M4 GND@52 (power), M5 IOM5, M6 IOM6, M7 NC18, M8 NC19, M9 VCC@17 (power), M10 GND@21 (power), M11 GND@22 (power), M12 GND@23 (power), M13 GND@24 (power), M14 VCC@18 (power), M15 NC20, M16 NC21, M17 MSEL0, M18 IOM18, M19 IOM19, M20 VCC@43 (power), M21 CLK7, M22 CLK6, N1 ION1, N2 ION2, N3 ION3, N4 ION4, N5 NC22, N6 ION6, N7 GND@53 (power), N8 NC23, N9 VCC@19 (power), N10 GND@25 (power), N11 GND@26 (power), N12 GND@27 (power), N13 GND@28 (power), N14 VCC@20 (power), N15 ION15, N16 GND@54 (power), N17 MSEL1, N18 CONF_DONE, N19 GND@55 (power), N20 NSTATUS, N21 ION21, N22 ION22, P1 IOP1, P2 IOP2, P3 IOP3, P4 NC24, P5 IOP5, P6 IOP6, P7 VCC@30 (power), P8 IOP8, P9 IOP9, P10 VCC@21 (power), P11 VCC@22 (power), P12 VCC@23 (power), P13 VCC@24 (power), P14 NC25, P15 IOP15, P16 VCC@44 (power), P17 IOP17, P18 IOP18, P19 NC26, P20 NC27, P21 NC28, P22 NC29, R1 IOR1, R2 IOR2, R3 GND@56 (power), R4 NC30, R5 IOR5, R6 IOR6, R7 IOR7, R8 IOR8, R9 IOR9, R10 IOR10, R11 IOR11, R12 IOR12, R13 IOR13, R14 IOR14, R15 IOR15, R16 IOR16, R17 IOR17, R18 IOR18, R19 IOR19, R20 IOR20, R21 IOR21, R22 IOR22, T1 IOT1, T2 IOT2, T3 IOT3, T4 VCC@31 (power), T5 IOT5, T6 IOT6, T7 IOT7, T8 IOT8, T9 VCC@33 (power), T10 GND@57 (power), T11 IOT11, T12 IOT12, T13 GND@58 (power), T14 VCC@38 (power), T15 IOT15, T16 IOT16, T17 GND@8 (power), T18 IOT18, T19 VCC@45 (power), T20 GND@59 (power), T21 IOT21, T22 IOT22, U1 IOU1, U2 IOU2, U3 IOU3, U4 IOU4, U5 GND@3 (power), U6 VCC@2 (power), U7 VCC@3 (power), U8 IOU8, U9 IOU9, U10 IOU10, U11 CLK15, U12 CLK14, U13 IOU13, U14 IOU14, U15 IOU15, U16 VCC@4 (power), U17 VCC@5 (power), U18 IOU18, U19 IOU19, U20 IOU20, U21 IOU21, U22 IOU22, V1 IOV1, V2 IOV2, V3 GND@60 (power), V4 IOV4, V5 GND@4 (power), V6 GND@61 (power), V7 GND@5 (power), V8 IOV8, V9 IOV9, V10 VCC@34 (power), V11 IOV11, V12 CLK12, V13 VCC@39 (power), V14 IOV14, V15 IOV15, V16 GND@6 (power), V17 GND@62 (power), V18 GND@7 (power), V19 IOV19, V20 IOV20, V21 IOV21, V22 IOV22, W1 IOW1, W2 IOW2, W3 IOW3, W4 IOW4, W5 IOW5, W6 VCC@35 (power), W7 IOW7, W8 IOW8, W9 IOW9, W10 GND@63 (power), W11 IOW11, W12 CLK13, W13 GND@64 (power), W14 IOW14, W15 IOW15, W16 IOW16, W17 VCC@40 (power), W18 NC31, W19 GND@65 (power), W20 IOW20, W21 IOW21, W22 IOW22, Y1 IOY1, Y2 IOY2, Y3 IOY3, Y4 IOY4, Y5 IOY5, Y6 IOY6, Y7 IOY7, Y8 GND@66 (power), Y9 IOY9, Y10 IOY10, Y11 VCC@36 (power), Y12 VCC@41 (power), Y13 IOY13, Y14 IOY14, Y15 GND@67 (power), Y16 IOY16, Y17 IOY17, Y18 IOY18, Y19 IOY19, Y20 IOY20, Y21 IOY21, Y22 IOY22

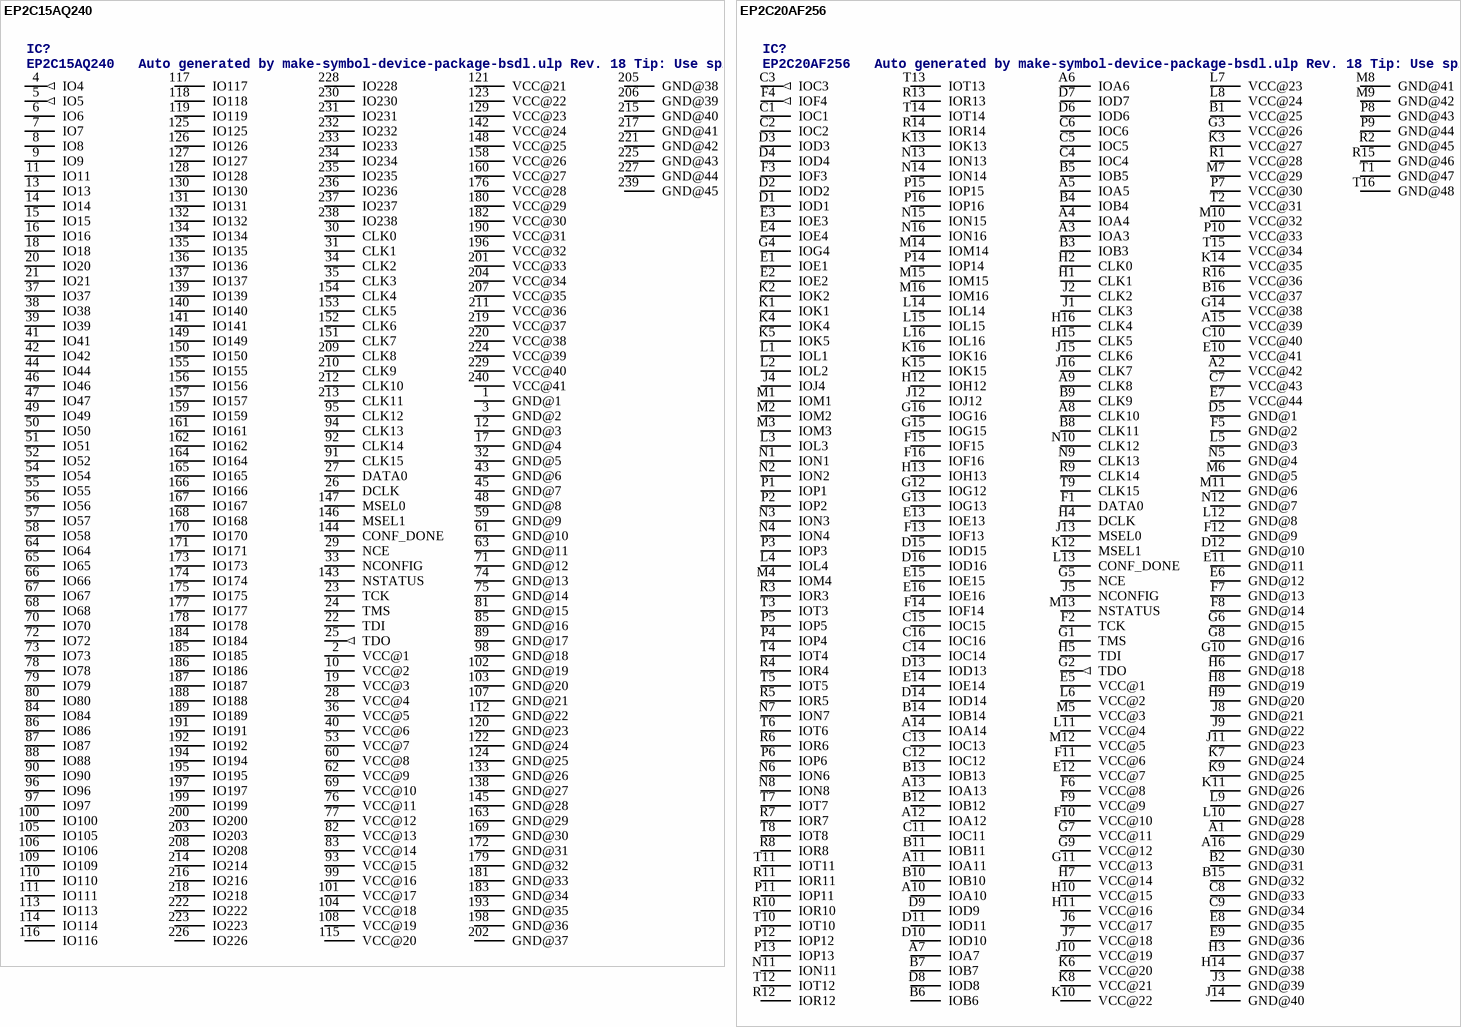
[diagram p10: symbols EP2C15AQ240 to EP2C20AF256]

## EP2C15AQ240
designator IC?, comment EP2C15AQ240   Auto generated by make-symbol-device-package-bsdl.ulp Rev. 18 Tip: Use split-device-symbol.ulp to generate a Device with multiple small symbols! Read HELP.   Source: EP2C15AQ240.BSD
OC_FARNELL: unknown; OC_NEWARK: unknown
footprint PQFP240
pins: 1 GND@1 (power), 2 VCC@1 (power), 3 GND@2 (power), 4 IO4 (out), 5 IO5 (out), 6 IO6, 7 IO7, 8 IO8, 9 IO9, 10 VCC@2 (power), 11 IO11, 12 GND@3 (power), 13 IO13, 14 IO14, 15 IO15, 16 IO16, 17 GND@4 (power), 18 IO18, 19 VCC@3 (power), 20 IO20, 21 IO21, 22 TDI, 23 TCK, 24 TMS, 25 TDO (out), 26 DCLK, 27 DATA0, 28 VCC@4 (power), 29 NCE, 30 CLK0, 31 CLK1, 32 GND@5 (power), 33 NCONFIG, 34 CLK2, 35 CLK3, 36 VCC@5 (power), 37 IO37, 38 IO38, 39 IO39, 40 VCC@6 (power), 41 IO41, 42 IO42, 43 GND@6 (power), 44 IO44, 45 GND@7 (power), 46 IO46, 47 IO47, 48 GND@8 (power), 49 IO49, 50 IO50, 51 IO51, 52 IO52, 53 VCC@7 (power), 54 IO54, 55 IO55, 56 IO56, 57 IO57, 58 IO58, 59 GND@9 (power), 60 VCC@8 (power), 61 GND@10 (power), 62 VCC@9 (power), 63 GND@11 (power), 64 IO64, 65 IO65, 66 IO66, 67 IO67, 68 IO68, 69 VCC@10 (power), 70 IO70, 71 GND@12 (power), 72 IO72, 73 IO73, 74 GND@13 (power), 75 GND@14 (power), 76 VCC@11 (power), 77 VCC@12 (power), 78 IO78, 79 IO79, 80 IO80, 81 GND@15 (power), 82 VCC@13 (power), 83 VCC@14 (power), 84 IO84, 85 GND@16 (power), 86 IO86, 87 IO87, 88 IO88, 89 GND@17 (power), 90 IO90, 91 CLK15, 92 CLK14, 93 VCC@15 (power), 94 CLK13, 95 CLK12, 96 IO96, 97 IO97, 98 GND@18 (power), 99 VCC@16 (power), 100 IO100, 101 VCC@17 (power), 102 GND@19 (power), 103 GND@20 (power), 104 VCC@18 (power), 105 IO105, 106 IO106, 107 GND@21 (power), 108 VCC@19 (power), 109 IO109, 110 IO110, 111 IO111, 112 GND@22 (power), 113 IO113, 114 IO114, 115 VCC@20 (power), 116 IO116, 117 IO117, 118 IO118, 119 IO119, 120 GND@23 (power), 121 VCC@21 (power), 122 GND@24 (power), 123 VCC@22 (power), 124 GND@25 (power), 125 IO125, 126 IO126, 127 IO127, 128 IO128, 129 VCC@23 (power), 130 IO130, 131 IO131, 132 IO132, 133 GND@26 (power), 134 IO134, 135 IO135, 136 IO136, 137 IO137, 138 GND@27 (power), 139 IO139, 140 IO140, 141 IO141, 142 VCC@24 (power), 143 NSTATUS, 144 CONF_DONE, 145 GND@28 (power), 146 MSEL1, 147 MSEL0, 148 VCC@25 (power), 149 IO149, 150 IO150, 151 CLK7, 152 CLK6, 153 CLK5, 154 CLK4, 155 IO155, 156 IO156, 157 IO157, 158 VCC@26 (power), 159 IO159, 160 VCC@27 (power), 161 IO161, 162 IO162, 163 GND@29 (power), 164 IO164, 165 IO165, 166 IO166, 167 IO167, 168 IO168, 169 GND@30 (power), 170 IO170, 171 IO171, 172 GND@31 (power), 173 IO173, 174 IO174, 175 IO175, 176 VCC@28 (power), 177 IO177, 178 IO178, 179 GND@32 (power), 180 VCC@29 (power), 181 GND@33 (power), 182 VCC@30 (power), 183 GND@34 (power), 184 IO184, 185 IO185, 186 IO186, 187 IO187, 188 IO188, 189 IO189, 190 VCC@31 (power), 191 IO191, 192 IO192, 193 GND@35 (power), 194 IO194, 195 IO195, 196 VCC@32 (power), 197 IO197, 198 GND@36 (power), 199 IO199, 200 IO200, 201 VCC@33 (power), 202 GND@37 (power), 203 IO203, 204 VCC@34 (power), 205 GND@38 (power), 206 GND@39 (power), 207 VCC@35 (power), 208 IO208, 209 CLK8, 210 CLK9, 211 VCC@36 (power), 212 CLK10, 213 CLK11, 214 IO214, 215 GND@40 (power), 216 IO216, 217 GND@41 (power), 218 IO218, 219 VCC@37 (power), 220 VCC@38 (power), 221 GND@42 (power), 222 IO222, 223 IO223, 224 VCC@39 (power), 225 GND@43 (power), 226 IO226, 227 GND@44 (power), 228 IO228, 229 VCC@40 (power), 230 IO230, 231 IO231, 232 IO232, 233 IO233, 234 IO234, 235 IO235, 236 IO236, 237 IO237, 238 IO238, 239 GND@45 (power), 240 VCC@41 (power)

## EP2C20AF256
designator IC?, comment EP2C20AF256   Auto generated by make-symbol-device-package-bsdl.ulp Rev. 18 Tip: Use split-device-symbol.ulp to generate a Device with multiple small symbols! Read HELP.   Source: EP2C20AF256.BSD
MPN: EP2C20AF256I8N; OC_FARNELL: 1549349; OC_NEWARK: 52R0498
footprint FBGA256
pins: A1 GND@29 (power), A2 VCC@42 (power), A3 IOA3, A4 IOA4, A5 IOA5, A6 IOA6, A7 IOA7, A8 CLK10, A9 CLK8, A10 IOA10, A11 IOA11, A12 IOA12, A13 IOA13, A14 IOA14, A15 VCC@39 (power), A16 GND@30 (power), B1 VCC@25 (power), B2 GND@31 (power), B3 IOB3, B4 IOB4, B5 IOB5, B6 IOB6, B7 IOB7, B8 CLK11, B9 CLK9, B10 IOB10, B11 IOB11, B12 IOB12, B13 IOB13, B14 IOB14, B15 GND@32 (power), B16 VCC@37 (power), C1 IOC1, C2 IOC2, C3 IOC3 (out), C4 IOC4, C5 IOC5, C6 IOC6, C7 VCC@43 (power), C8 GND@33 (power), C9 GND@34 (power), C10 VCC@40 (power), C11 IOC11, C12 IOC12, C13 IOC13, C14 IOC14, C15 IOC15, C16 IOC16, D1 IOD1, D2 IOD2, D3 IOD3, D4 IOD4, D5 GND@1 (power), D6 IOD6, D7 IOD7, D8 IOD8, D9 IOD9, D10 IOD10, D11 IOD11, D12 GND@10 (power), D13 IOD13, D14 IOD14, D15 IOD15, D16 IOD16, E1 IOE1, E2 IOE2, E3 IOE3, E4 IOE4, E5 VCC@1 (power), E6 GND@12 (power), E7 VCC@44 (power), E8 GND@35 (power), E9 GND@36 (power), E10 VCC@41 (power), E11 GND@11 (power), E12 VCC@7 (power), E13 IOE13, E14 IOE14, E15 IOE15, E16 IOE16, F1 DATA0, F2 TCK, F3 IOF3, F4 IOF4 (out), F5 GND@2 (power), F6 VCC@8 (power), F7 GND@13 (power), F8 GND@14 (power), F9 VCC@9 (power), F10 VCC@10 (power), F11 VCC@6 (power), F12 GND@9 (power), F13 IOF13, F14 IOF14, F15 IOF15, F16 IOF16, G1 TMS, G2 TDO (out), G3 VCC@26 (power), G4 IOG4, G5 NCE, G6 GND@15 (power), G7 VCC@11 (power), G8 GND@16 (power), G9 VCC@12 (power), G10 GND@17 (power), G11 VCC@13 (power), G12 IOG12, G13 IOG13, G14 VCC@38 (power), G15 IOG15, G16 IOG16, H1 CLK1, H2 CLK0, H3 GND@37 (power), H4 DCLK, H5 TDI, H6 GND@18 (power), H7 VCC@14 (power), H8 GND@19 (power), H9 GND@20 (power), H10 VCC@15 (power), H11 VCC@16 (power), H12 IOH12, H13 IOH13, H14 GND@38 (power), H15 CLK5, H16 CLK4, J1 CLK3, J2 CLK2, J3 GND@39 (power), J4 IOJ4, J5 NCONFIG, J6 VCC@17 (power), J7 VCC@18 (power), J8 GND@21 (power), J9 GND@22 (power), J10 VCC@19 (power), J11 GND@23 (power), J12 IOJ12, J13 MSEL0, J14 GND@40 (power), J15 CLK6, J16 CLK7, K1 IOK1, K2 IOK2, K3 VCC@27 (power), K4 IOK4, K5 IOK5, K6 VCC@20 (power), K7 GND@24 (power), K8 VCC@21 (power), K9 GND@25 (power), K10 VCC@22 (power), K11 GND@26 (power), K12 MSEL1, K13 IOK13, K14 VCC@35 (power), K15 IOK15, K16 IOK16, L1 IOL1, L2 IOL2, L3 IOL3, L4 IOL4, L5 GND@3 (power), L6 VCC@2 (power), L7 VCC@23 (power), L8 VCC@24 (power), L9 GND@27 (power), L10 GND@28 (power), L11 VCC@4 (power), L12 GND@8 (power), L13 CONF_DONE, L14 IOL14, L15 IOL15, L16 IOL16, M1 IOM1, M2 IOM2, M3 IOM3, M4 IOM4, M5 VCC@3 (power), M6 GND@5 (power), M7 VCC@29 (power), M8 GND@41 (power), M9 GND@42 (power), M10 VCC@32 (power), M11 GND@6 (power), M12 VCC@5 (power), M13 NSTATUS, M14 IOM14, M15 IOM15, M16 IOM16, N1 ION1, N2 ION2, N3 ION3, N4 ION4, N5 GND@4 (power), N6 ION6, N7 ION7, N8 ION8, N9 CLK13, N10 CLK12, N11 ION11, N12 GND@7 (power), N13 ION13, N14 ION14, N15 ION15, N16 ION16, P1 IOP1, P2 IOP2, P3 IOP3, P4 IOP4, P5 IOP5, P6 IOP6, P7 VCC@30 (power), P8 GND@43 (power), P9 GND@44 (power), P10 VCC@33 (power), P11 IOP11, P12 IOP12, P13 IOP13, P14 IOP14, P15 IOP15, P16 IOP16, R1 VCC@28 (power), R2 GND@45 (power), R3 IOR3, R4 IOR4, R5 IOR5, R6 IOR6, R7 IOR7, R8 IOR8, R9 CLK14, R10 IOR10, R11 IOR11, R12 IOR12, R13 IOR13, R14 IOR14, R15 GND@46 (power), R16 VCC@36 (power), T1 GND@47 (power), T2 VCC@31 (power), T3 IOT3, T4 IOT4, T5 IOT5, T6 IOT6, T7 IOT7, T8 IOT8, T9 CLK15, T10 IOT10, T11 IOT11, T12 IOT12, T13 IOT13, T14 IOT14, T15 VCC@34 (power), T16 GND@48 (power)

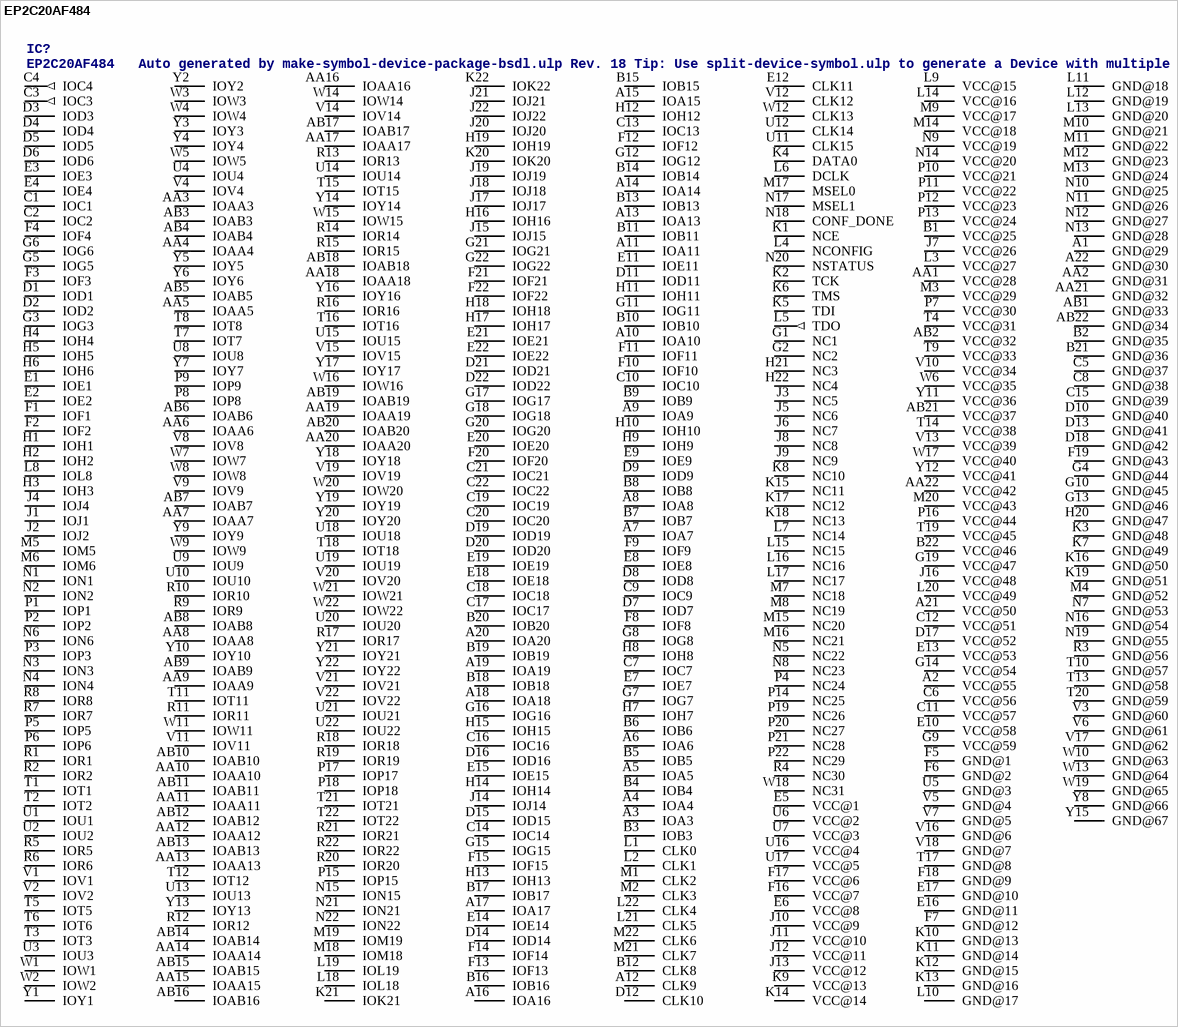
[diagram p11: symbol EP2C20AF484]

## EP2C20AF484
designator IC?, comment EP2C20AF484   Auto generated by make-symbol-device-package-bsdl.ulp Rev. 18 Tip: Use split-device-symbol.ulp to generate a Device with multiple small symbols! Read HELP.   Source: EP2C20AF484.BSD
MPN: EP2C20AF484I8N; OC_FARNELL: unknown; OC_NEWARK: 52R0500
footprint FBGA484
pins: A1 GND@29 (power), A2 VCC@55 (power), A3 IOA3, A4 IOA4, A5 IOA5, A6 IOA6, A7 IOA7, A8 IOA8, A9 IOA9, A10 IOA10, A11 IOA11, A12 CLK9, A13 IOA13, A14 IOA14, A15 IOA15, A16 IOA16, A17 IOA17, A18 IOA18, A19 IOA19, A20 IOA20, A21 VCC@50 (power), A22 GND@30 (power), AA1 VCC@28 (power), AA2 GND@31 (power), AA3 IOAA3, AA4 IOAA4, AA5 IOAA5, AA6 IOAA6, AA7 IOAA7, AA8 IOAA8, AA9 IOAA9, AA10 IOAA10, AA11 IOAA11, AA12 IOAA12, AA13 IOAA13, AA14 IOAA14, AA15 IOAA15, AA16 IOAA16, AA17 IOAA17, AA18 IOAA18, AA19 IOAA19, AA20 IOAA20, AA21 GND@32 (power), AA22 VCC@42 (power), AB1 GND@33 (power), AB2 VCC@32 (power), AB3 IOAB3, AB4 IOAB4, AB5 IOAB5, AB6 IOAB6, AB7 IOAB7, AB8 IOAB8, AB9 IOAB9, AB10 IOAB10, AB11 IOAB11, AB12 IOAB12, AB13 IOAB13, AB14 IOAB14, AB15 IOAB15, AB16 IOAB16, AB17 IOAB17, AB18 IOAB18, AB19 IOAB19, AB20 IOAB20, AB21 VCC@37 (power), AB22 GND@34 (power), B1 VCC@25 (power), B2 GND@35 (power), B3 IOB3, B4 IOB4, B5 IOB5, B6 IOB6, B7 IOB7, B8 IOB8, B9 IOB9, B10 IOB10, B11 IOB11, B12 CLK8, B13 IOB13, B14 IOB14, B15 IOB15, B16 IOB16, B17 IOB17, B18 IOB18, B19 IOB19, B20 IOB20, B21 GND@36 (power), B22 VCC@46 (power), C1 IOC1, C2 IOC2, C3 IOC3 (out), C4 IOC4 (out), C5 GND@37 (power), C6 VCC@56 (power), C7 IOC7, C8 GND@38 (power), C9 IOC9, C10 IOC10, C11 VCC@57 (power), C12 VCC@51 (power), C13 IOC13, C14 IOC14, C15 GND@39 (power), C16 IOC16, C17 IOC17, C18 IOC18, C19 IOC19, C20 IOC20, C21 IOC21, C22 IOC22, D1 IOD1, D2 IOD2, D3 IOD3, D4 IOD4, D5 IOD5, D6 IOD6, D7 IOD7, D8 IOD8, D9 IOD9, D10 GND@40 (power), D11 IOD11, D12 CLK10, D13 GND@41 (power), D14 IOD14, D15 IOD15, D16 IOD16, D17 VCC@52 (power), D18 GND@42 (power), D19 IOD19, D20 IOD20, D21 IOD21, D22 IOD22, E1 IOE1, E2 IOE2, E3 IOE3, E4 IOE4, E5 VCC@1 (power), E6 VCC@8 (power), E7 IOE7, E8 IOE8, E9 IOE9, E10 VCC@58 (power), E11 IOE11, E12 CLK11, E13 VCC@53 (power), E14 IOE14, E15 IOE15, E16 GND@11 (power), E17 GND@10 (power), E18 IOE18, E19 IOE19, E20 IOE20, E21 IOE21, E22 IOE22, F1 IOF1, F2 IOF2, F3 IOF3, F4 IOF4, F5 GND@1 (power), F6 GND@2 (power), F7 GND@12 (power), F8 IOF8, F9 IOF9, F10 IOF10, F11 IOF11, F12 IOF12, F13 IOF13, F14 IOF14, F15 IOF15, F16 VCC@7 (power), F17 VCC@6 (power), F18 GND@9 (power), F19 GND@43 (power), F20 IOF20, F21 IOF21, F22 IOF22, G1 NC1, G2 NC2, G3 IOG3, G4 GND@44 (power), G5 IOG5, G6 IOG6, G7 IOG7, G8 IOG8, G9 VCC@59 (power), G10 GND@45 (power), G11 IOG11, G12 IOG12, G13 GND@46 (power), G14 VCC@54 (power), G15 IOG15, G16 IOG16, G17 IOG17, G18 IOG18, G19 VCC@47 (power), G20 IOG20, G21 IOG21, G22 IOG22, H1 IOH1, H2 IOH2, H3 IOH3, H4 IOH4, H5 IOH5, H6 IOH6, H7 IOH7, H8 IOH8, H9 IOH9, H10 IOH10, H11 IOH11, H12 IOH12, H13 IOH13, H14 IOH14, H15 IOH15, H16 IOH16, H17 IOH17, H18 IOH18, H19 IOH19, H20 GND@47 (power), H21 NC3, H22 NC4, J1 IOJ1, J2 IOJ2, J3 NC5, J4 IOJ4, J5 NC6, J6 NC7, J7 VCC@26 (power), J8 NC8, J9 NC9, J10 VCC@9 (power), J11 VCC@10 (power), J12 VCC@11 (power), J13 VCC@12 (power), J14 IOJ14, J15 IOJ15, J16 VCC@48 (power), J17 IOJ17, J18 IOJ18, J19 IOJ19, J20 IOJ20, J21 IOJ21, J22 IOJ22, K1 NCE, K2 TCK, K3 GND@48 (power), K4 DATA0, K5 TDI, K6 TMS, K7 GND@49 (power), K8 NC10, K9 VCC@13 (power), K10 GND@13 (power), K11 GND@14 (power), K12 GND@15 (power), K13 GND@16 (power), K14 VCC@14 (power), K15 NC11, K16 GND@50 (power), K17 NC12, K18 NC13, K19 GND@51 (power), K20 IOK20, K21 IOK21, K22 IOK22, L1 CLK0, L2 CLK1, L3 VCC@27 (power), L4 NCONFIG, L5 TDO (out), L6 DCLK, L7 NC14, L8 IOL8, L9 VCC@15 (power), L10 GND@17 (power), L11 GND@18 (power), L12 GND@19 (power), L13 GND@20 (power), L14 VCC@16 (power), L15 NC15, L16 NC16, L17 NC17, L18 IOL18, L19 IOL19, L20 VCC@49 (power), L21 CLK5, L22 CLK4, M1 CLK2, M2 CLK3, M3 VCC@29 (power), M4 GND@52 (power), M5 IOM5, M6 IOM6, M7 NC18, M8 NC19, M9 VCC@17 (power), M10 GND@21 (power), M11 GND@22 (power), M12 GND@23 (power), M13 GND@24 (power), M14 VCC@18 (power), M15 NC20, M16 NC21, M17 MSEL0, M18 IOM18, M19 IOM19, M20 VCC@43 (power), M21 CLK7, M22 CLK6, N1 ION1, N2 ION2, N3 ION3, N4 ION4, N5 NC22, N6 ION6, N7 GND@53 (power), N8 NC23, N9 VCC@19 (power), N10 GND@25 (power), N11 GND@26 (power), N12 GND@27 (power), N13 GND@28 (power), N14 VCC@20 (power), N15 ION15, N16 GND@54 (power), N17 MSEL1, N18 CONF_DONE, N19 GND@55 (power), N20 NSTATUS, N21 ION21, N22 ION22, P1 IOP1, P2 IOP2, P3 IOP3, P4 NC24, P5 IOP5, P6 IOP6, P7 VCC@30 (power), P8 IOP8, P9 IOP9, P10 VCC@21 (power), P11 VCC@22 (power), P12 VCC@23 (power), P13 VCC@24 (power), P14 NC25, P15 IOP15, P16 VCC@44 (power), P17 IOP17, P18 IOP18, P19 NC26, P20 NC27, P21 NC28, P22 NC29, R1 IOR1, R2 IOR2, R3 GND@56 (power), R4 NC30, R5 IOR5, R6 IOR6, R7 IOR7, R8 IOR8, R9 IOR9, R10 IOR10, R11 IOR11, R12 IOR12, R13 IOR13, R14 IOR14, R15 IOR15, R16 IOR16, R17 IOR17, R18 IOR18, R19 IOR19, R20 IOR20, R21 IOR21, R22 IOR22, T1 IOT1, T2 IOT2, T3 IOT3, T4 VCC@31 (power), T5 IOT5, T6 IOT6, T7 IOT7, T8 IOT8, T9 VCC@33 (power), T10 GND@57 (power), T11 IOT11, T12 IOT12, T13 GND@58 (power), T14 VCC@38 (power), T15 IOT15, T16 IOT16, T17 GND@8 (power), T18 IOT18, T19 VCC@45 (power), T20 GND@59 (power), T21 IOT21, T22 IOT22, U1 IOU1, U2 IOU2, U3 IOU3, U4 IOU4, U5 GND@3 (power), U6 VCC@2 (power), U7 VCC@3 (power), U8 IOU8, U9 IOU9, U10 IOU10, U11 CLK15, U12 CLK14, U13 IOU13, U14 IOU14, U15 IOU15, U16 VCC@4 (power), U17 VCC@5 (power), U18 IOU18, U19 IOU19, U20 IOU20, U21 IOU21, U22 IOU22, V1 IOV1, V2 IOV2, V3 GND@60 (power), V4 IOV4, V5 GND@4 (power), V6 GND@61 (power), V7 GND@5 (power), V8 IOV8, V9 IOV9, V10 VCC@34 (power), V11 IOV11, V12 CLK12, V13 VCC@39 (power), V14 IOV14, V15 IOV15, V16 GND@6 (power), V17 GND@62 (power), V18 GND@7 (power), V19 IOV19, V20 IOV20, V21 IOV21, V22 IOV22, W1 IOW1, W2 IOW2, W3 IOW3, W4 IOW4, W5 IOW5, W6 VCC@35 (power), W7 IOW7, W8 IOW8, W9 IOW9, W10 GND@63 (power), W11 IOW11, W12 CLK13, W13 GND@64 (power), W14 IOW14, W15 IOW15, W16 IOW16, W17 VCC@40 (power), W18 NC31, W19 GND@65 (power), W20 IOW20, W21 IOW21, W22 IOW22, Y1 IOY1, Y2 IOY2, Y3 IOY3, Y4 IOY4, Y5 IOY5, Y6 IOY6, Y7 IOY7, Y8 GND@66 (power), Y9 IOY9, Y10 IOY10, Y11 VCC@36 (power), Y12 VCC@41 (power), Y13 IOY13, Y14 IOY14, Y15 GND@67 (power), Y16 IOY16, Y17 IOY17, Y18 IOY18, Y19 IOY19, Y20 IOY20, Y21 IOY21, Y22 IOY22

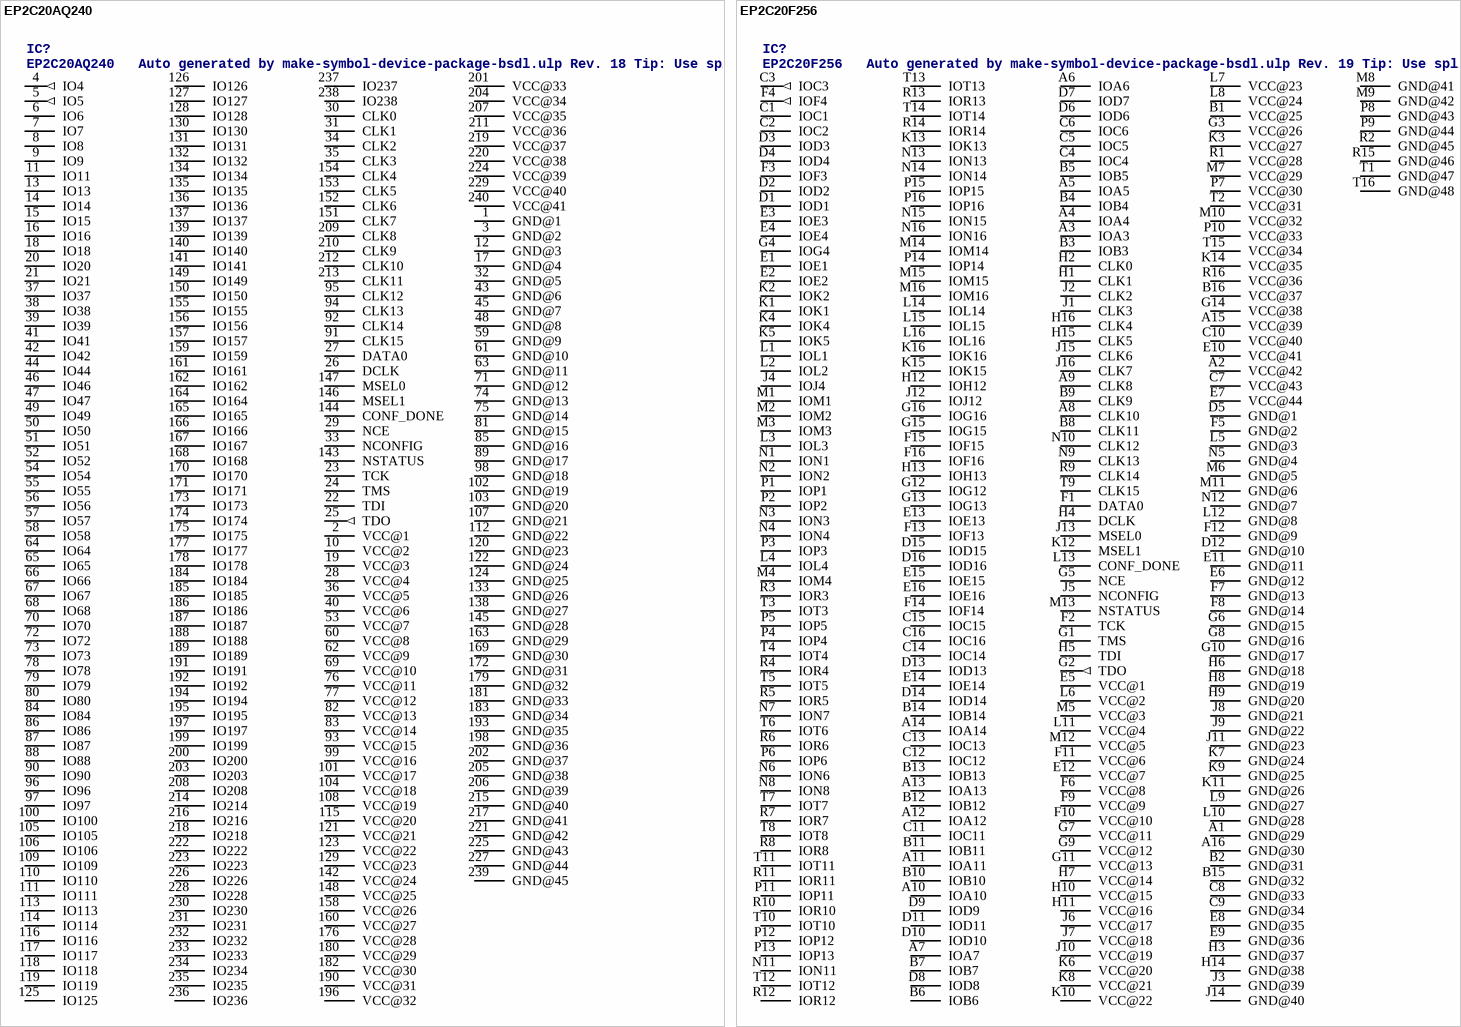
[diagram p12: symbols EP2C20AQ240 to EP2C20F256]